# Altium integrated library Lattice FPGA FPSC.IntLib: 28 symbols (part 8 of 9)
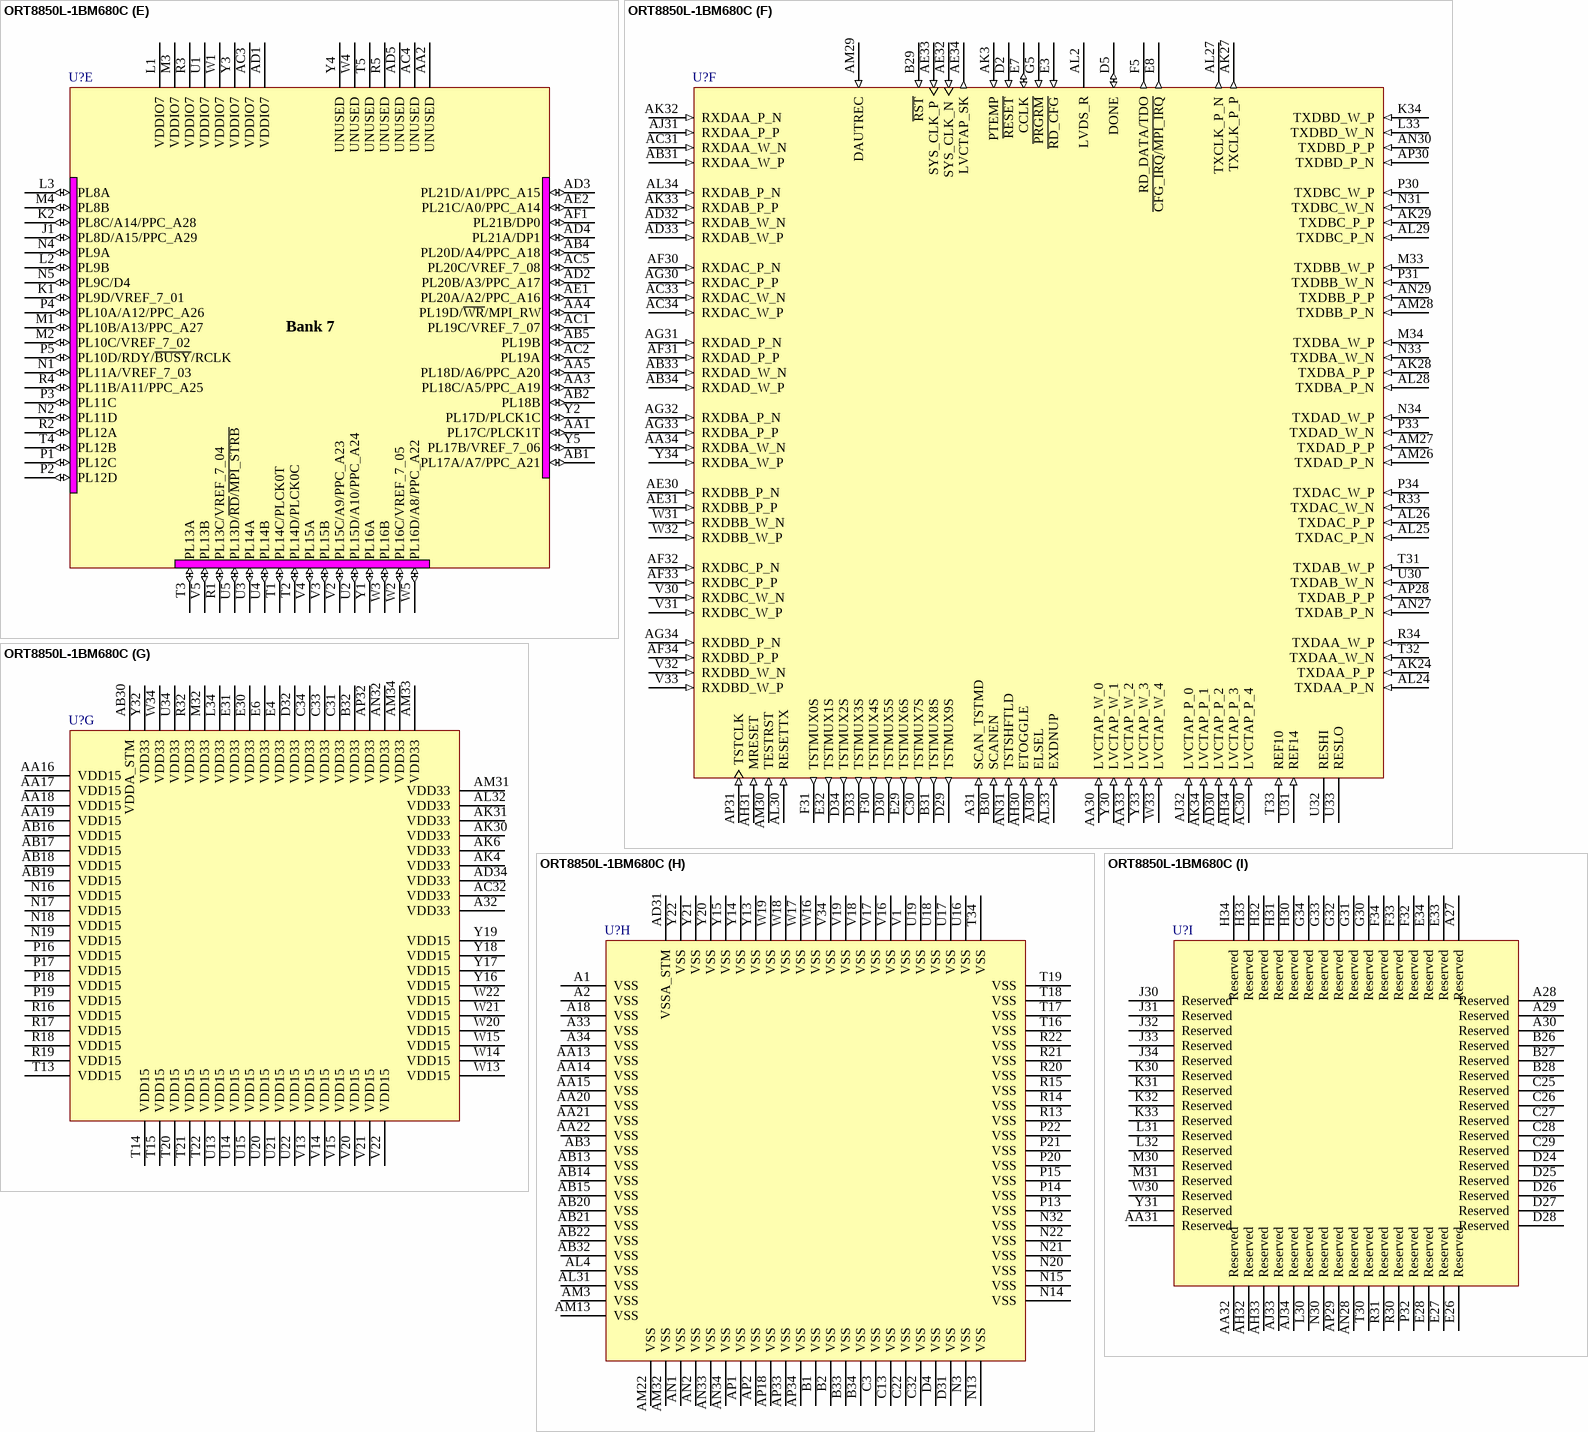
[diagram p59: symbol ORT8850L-1BM680C]

## ORT8850L-1BM680C
designator U?
ORCA ORT8850 Eight Channel x 850 Mbps Backplane Transceiver FPSC: 278 User I/Os, 680-Ball fpBGA, Speed Grade 1, Commercial Grade; Published: 17-Dec-2003; LatestRevisionDate: 13-Apr-2006; LatestRevisionNote: IPC-7351 Footprint Added.; DatasheetVersion: ort8850_04 (Oct-2003); PackageVersion: pkg_32, Aug-2005; PackageReference: fpBGA680; Publisher: Altium Limited; PackageDescription: 680-Ball Fine Pitch Ball Grid Array (fpBGA680); ComponentLink1Description: Manufacturer Link; ComponentLink1URL: http://www.latticesemi.com/products/fpsc/ort8850/index.cfm; ComponentLink2Description: Datasheet; ComponentLink2URL: http://www.latticesemi.com/account/_download.cfm?AMID=3967; ComponentLink3Description: Lattice Login; ComponentLink3URL: http://www.latticesemi.com/account/login.cfm
footprint fpBGA680 (BGA, 680-Leads, Body 35x35mm, Pitch 1mm)
3D model ORT8850L-fpBGA680 (680-Ball Fine Pitch Ball Grid Array (fpBGA680))
part A pins: A3 VDDIO0 (power), A4 PT3D (io), A5 PT4C/TCK (io), A6 PT5B (io), A7 PT6D/A18/MPI_TSZ0 (io), A8 PT7D/D0 (io), A9 PT8C (io), A10 PT9D/M2 (io), A12 PT11A/VREF_0_01 (io), A13 PT11C/~{MPI_ACK} (io), B3 VDDIO0 (power), B4 PT2A (io), B5 PT2D/PLL_CK1C/PPLL (io), B6 PT3B (io), B7 PT5C/D2 (io), B8 PT7A/A19/MPI_TSZ1 (io), B9 PT8A (io), B10 PT8D (io), B11 PT10A/A21/~{MPI_BURST} (io), B12 PT10D/M0 (io), B13 PT11B (io), C1 VDDIO0 (power), C2 VDDIO0 (power), C4 VDDIO0 (power), C5 PT2B (io), C6 PT3A (io), C7 PT4D/TDI (io), C8 PT6A (io), C9 PT7B/A20/~{MPI_BDIP} (io), C10 PT8B/VREF_0_03 (io), C11 PT9A/~{MPI_TEA} (io), D1 PL2C/PLL_CK0T/HPPLL (io), D3 VDDIO0 (power), D6 PT2C/PLL_CK1T/PPLL (io), D7 PT4A (io), D8 PT5A/VREF_0_05 (io), D9 PT6B/VREF_0_04 (io), D10 PT7C/TMS (io), D11 UNUSED, D12 PT9B/VREF_0_02 (io), D13 PT10C/M1 (io), E1 PL3B (io), E2 PL2B (io), E5 VDDIO0 (power), E9 PT3C/VREF_0_06 (io), E10 PT4B (io), E11 PT5D/D1 (io), E12 PT6C/D3 (io), E13 UNUSED, E14 PT9C/M3 (io), E15 PT10B/MPI_CLK (io), E16 PT11D/~{MPI_RTRY} (io), F1 PL4A (io), F2 PL3A/VREF_0_08 (io), F3 PL2A/VREF_0_07 (io), F4 PL2D/PLL_CK0C/HPPLL (io), G1 PL6D/~{CS}0 (io), G2 PL5D/TESTCFG (io), G3 PL4C/~{LDC} (io), G4 PL3D/D5 (io), H1 PL7D/~{INIT} (io), H2 PL6B (io), H3 PL5C/D7 (io), H4 PL4B (io), H5 PL3C/D6 (io), J2 PL7C/DOUT (io), J3 PL6A (io), J4 PL5A/A17/PPC_A31 (io), J5 PL4D/HDC (io), K3 PL7B/VREF_0_10 (io), K4 UNUSED, K5 PL5B/VREF_0_09 (io), L4 PL7A/A16/PPC_A30 (io), L5 PL6C/CS1 (io), M5 UNUSED
part B pins: A11 VDDIO1 (power), A14 PT14C (io), A15 PT15C (io), A16 PT17B (io), A17 VDDIO1 (power), A19 VDDIO1 (power), A20 PT20A (io), A21 PT20D (io), A22 PT22D (io), A23 PT24A (io), A24 VDDIO1 (power), A25 PT26B (io), A26 PT26D (io), B14 PT14A (io), B15 PT15A (io), B16 PT16D/PTCK0C (io), B17 PT17D/PTCK1C (io), B18 PT18B (io), B19 PT19A (io), B20 PT20C (io), B21 PT21C (io), B22 PT23C (io), B23 PT24C/VREF_1_02 (io), B24 PT25B (io), B25 PT26A (io), C12 VDDIO1 (power), C14 PT13C/VREF_1_06 (io), C15 VDDIO1 (power), C16 PT16C/PTCK0T (io), C17 PT17C/PTCK1T (io), C18 PT18A (io), C19 PT19B (io), C20 VDDIO1 (power), C21 PT22C/VREF_1_03 (io), C23 VDDIO1 (power), C24 PT25D/VREF_1_01 (io), D14 PT13A (io), D15 PT14D (io), D16 PT16A (io), D17 PT17A (io), D18 PT18C/VREF_1_04 (io), D19 PT19C (io), D20 PT21D (io), D21 PT23D (io), D22 PT24D (io), D23 PT25C (io), E17 PT13D (io), E18 PT15D/VREF_1_05 (io), E19 PT18D (io), E20 PT19D (io), E21 PT21A (io), E22 PT22A (io), E23 PT24B (io), E24 PT25A (io), E25 PT26C (io)
part C pins: AK17 PB14B (io), AK18 PB17B (io), AK19 PB18B/VREF_5_03 (io), AK20 PB19C (io), AK21 PB20C (io), AK22 PB22C (io), AK23 PB23D/VREF_5_05 (io), AK25 PB26A (io), AK26 PB27B (io), AL17 PB15B (io), AL18 PB16B/PBCK0C (io), AL19 PB17D (io), AL20 PB19B (io), AL21 PB21B (io), AL22 PB22D (io), AL23 PB24C (io), AM12 VDDIO5 (power), AM15 VDDIO5 (power), AM16 PB14C (io), AM17 PB15D (io), AM18 PB16D (io), AM19 PB17C (io), AM20 VDDIO5 (power), AM21 PB20B/PBCK1C (io), AM23 VDDIO5 (power), AM24 PB24D (io), AM25 PB27A (io), AN15 PB13C (io), AN16 PB15A/VREF_5_01 (io), AN17 PB16A/PBCK0T (io), AN18 PB16C (io), AN19 PB17A/VREF_5_02 (io), AN20 PB18C (io), AN21 PB20A/PBCK1T (io), AN22 PB21C (io), AN23 PB22B/VREF_5_04 (io), AN24 PB23C (io), AN25 PB25B (io), AN26 PB26B/VREF_5_06 (io), AP11 VDDIO5 (power), AP15 PB14A (io), AP16 PB15C (io), AP17 VDDIO5 (power), AP19 VDDIO5 (power), AP20 PB18A (io), AP21 PB19A (io), AP22 PB21A (io), AP23 PB22A (io), AP24 VDDIO5 (power), AP25 PB25A (io), AP26 PB25C (io), AP27 PB26C (io)
part D pins: AE3 PL22D/D8 (io), AE4 PL22B/D9 (io), AE5 PL23D (io), AF2 PL22C/VREF_6_01 (io), AF3 PL22A/D10 (io), AF4 PL24D/D11 (io), AF5 PL23A (io), AG1 UNUSED, AG2 PL23C/VREF_6_02 (io), AG3 PL24C/D12 (io), AG4 PL25D/VREF_6_03 (io), AG5 PL25C/D13 (io), AH1 PL23B (io), AH2 PL24B (io), AH3 PL25B (io), AH4 PL26B (io), AH5 PL26C/VREF_6_04 (io), AJ1 PL24A (io), AJ2 PL26D (io), AJ3 PL26A (io), AJ4 PL27A (io), AJ5 PL27B (io), AK1 PL25A (io), AK2 PL27D/PLL_CK7C/HPPLL (io), AK5 VDDIO6 (power), AK7 PB2D/PLL_CK6C/PPLL (io), AK8 PB4A (io), AK9 PB4C/VREF_6_06 (io), AK10 UNUSED, AK11 UNUSED, AK12 PB8A (io), AK13 PB9C/VREF_6_09 (io), AK14 PB10B (io), AK15 PB11D/D28 (io), AK16 PB12B/D30 (io), AL1 PL27C/PLL_CK7T/HPPLL (io), AL3 VDDIO6 (power), AL5 PB2A/DP2 (io), AL6 PB3A (io), AL7 PB3D/DP3 (io), AL8 PB5C/D15 (io), AL9 PB6B/D18 (io), AL10 PB7A/D20 (io), AL11 PB7C/VREF_6_08 (io), AL12 PB8D/D24 (io), AL13 PB10A (io), AL14 PB10D/D27 (io), AL15 PB12A/D29 (io), AL16 PB12D/D31 (io), AM1 VDDIO6 (power), AM2 VDDIO6 (power), AM4 VDDIO6 (power), AM5 PB2C/PLL_CK6T/PPLL (io), AM6 PB3C/VREF_6_05 (io), AM7 PB5A (io), AM8 PB6A/D17 (io), AM9 UNUSED, AM10 PB7D/D22 (io), AM11 PB9A (io), AM14 UNUSED, AN3 VDDIO6 (power), AN4 PB2B (io), AN5 PB3B (io), AN6 PB4D/D14 (io), AN7 PB5D/D16 (io), AN8 PB6D/D19 (io), AN9 UNUSED, AN10 PB8C/D23 (io), AN11 PB9D/D25 (io), AN12 PB10C/D26 (io), AN13 PB11B (io), AN14 UNUSED, AP3 VDDIO6 (power), AP4 UNUSED, AP5 PB4B (io), AP6 PB5B (io), AP7 PB6C/VREF_6_07 (io), AP8 PB7B/D21 (io), AP9 PB8B (io), AP10 PB9B (io), AP12 PB11A (io), AP13 PB11C/VREF_6_10 (io), AP14 PB12C/VREF_6_11 (io)
part E pins: AA1 PL17C/PLCK1T (io), AA2 UNUSED, AA3 PL18C/A5/PPC_A19 (io), AA4 PL19D/~{WR}/MPI_RW (io), AA5 PL18D/A6/PPC_A20 (io), AB1 PL17A/A7/PPC_A21 (io), AB2 PL18B (io), AB4 PL20D/A4/PPC_A18 (io), AB5 PL19B (io), AC1 PL19C/VREF_7_07 (io), AC2 PL19A (io), AC3 VDDIO7 (power), AC4 UNUSED, AC5 PL20C/VREF_7_08 (io), AD1 VDDIO7 (power), AD2 PL20B/A3/PPC_A17 (io), AD3 PL21D/A1/PPC_A15 (io), AD4 PL21A/DP1 (io), AD5 UNUSED, AE1 PL20A/A2/PPC_A16 (io), AE2 PL21C/A0/PPC_A14 (io), AF1 PL21B/DP0 (io), J1 PL8D/A15/PPC_A29 (io), K1 PL9D/VREF_7_01 (io), K2 PL8C/A14/PPC_A28 (io), L1 VDDIO7 (power), L2 PL9B (io), L3 PL8A (io), M1 PL10B/A13/PPC_A27 (io), M2 PL10C/VREF_7_02 (io), M3 VDDIO7 (power), M4 PL8B (io), N1 PL11A/VREF_7_03 (io), N2 PL11D (io), N4 PL9A (io), N5 PL9C/D4 (io), P1 PL12C (io), P2 PL12D (io), P3 PL11C (io), P4 PL10A/A12/PPC_A26 (io), P5 PL10D/RDY/~{BUSY}/RCLK (io), R1 PL13C/VREF_7_04 (io), R2 PL12A (io), R3 VDDIO7 (power), R4 PL11B/A11/PPC_A25 (io), R5 UNUSED, T1 PL14C/PLCK0T (io), T2 PL14D/PLCK0C (io), T3 PL13A (io), T4 PL12B (io), T5 UNUSED, U1 VDDIO7 (power), U2 PL15D/A10/PPC_A24 (io), U3 PL14A (io), U4 PL14B (io), U5 PL13D/~{RD}/~{MPI_STRB} (io), V2 PL15C/A9/PPC_A23 (io), V3 PL15B (io), V4 PL15A (io), V5 PL13B (io), W1 VDDIO7 (power), W2 PL16C/VREF_7_05 (io), W3 PL16B (io), W4 UNUSED, W5 PL16D/A8/PPC_A22 (io), Y1 PL16A (io), Y2 PL17D/PLCK1C (io), Y3 VDDIO7 (power), Y4 UNUSED, Y5 PL17B/VREF_7_06 (io)
part F pins: A31 SCAN_TSTMD (in), AA30 LVCTAP_W_0 (in), AA33 LVCTAP_W_2 (in), AA34 RXDBA_W_N (in), AB31 RXDAA_W_P (in), AB33 RXDAD_W_N (in), AB34 RXDAD_W_P (in), AC30 LVCTAP_P_4 (in), AC31 RXDAA_W_N (in), AC33 RXDAC_W_N (in), AC34 RXDAC_W_P (in), AD30 LVCTAP_P_2 (in), AD32 RXDAB_W_N (in), AD33 RXDAB_W_P (in), AE30 RXDBB_P_N (in), AE31 RXDBB_P_P (in), AE32 SYS_CLK_N (in), AE33 SYS_CLK_P (in), AE34 LVCTAP_SK (out), AF30 RXDAC_P_N (in), AF31 RXDAD_P_P (in), AF32 RXDBC_P_N (in), AF33 RXDBC_P_P (in), AF34 RXDBD_P_P (in), AG30 RXDAC_P_P (in), AG31 RXDAD_P_N (in), AG32 RXDBA_P_N (in), AG33 RXDBA_P_P (in), AG34 RXDBD_P_N (in), AH30 ETOGGLE (in), AH31 MRESET (in), AH34 LVCTAP_P_3 (in), AJ30 ELSEL (in), AJ31 RXDAA_P_P (in), AJ32 LVCTAP_P_0 (in), AK3 PTEMP (in), AK24 TXDAA_P_P (in), AK27 TXCLK_P_P (out), AK28 TXDBA_P_P (in), AK29 TXDBC_P_P (in), AK32 RXDAA_P_N (in), AK33 RXDAB_P_P (in), AK34 LVCTAP_P_1 (in), AL2 LVDS_R, AL24 TXDAA_P_N (in), AL25 TXDAC_P_N (in), AL26 TXDAC_P_P (in), AL27 TXCLK_P_N (out), AL28 TXDBA_P_N (in), AL29 TXDBC_P_N (in), AL30 RESETTX (in), AL33 EXDNUP (in), AL34 RXDAB_P_N (in), AM26 TXDAD_P_N (in), AM27 TXDAD_P_P (in), AM28 TXDBB_P_N (in), AM29 DAUTREC (in), AM30 TESTRST (in), AN27 TXDAB_P_N (in), AN29 TXDBB_P_P (in), AN30 TXDBD_P_P (in), AN31 TSTSHFTLD (in), AP28 TXDAB_P_P (in), AP30 TXDBD_P_N (in), AP31 TSTCLK (in), B29 ~{RST} (in), B30 SCANEN (in), B31 TSTMUX8S (out), C30 TSTMUX7S (out), D2 ~{RESET} (in), D5 DONE (io), D29 TSTMUX9S (out), D30 TSTMUX5S (out), D33 TSTMUX3S (out), D34 TSTMUX2S (out), E3 ~{RD_CFG} (in), E7 CCLK (io), E8 ~{CFG_IRQ}/~{MPI_IRQ} (out), E29 TSTMUX6S (out), E32 TSTMUX1S (out), F5 RD_DATA/TDO (out), F30 TSTMUX4S (out), F31 TSTMUX0S (out), G5 ~{PRGRM} (in), K34 TXDBD_W_P (in), L33 TXDBD_W_N (in), M33 TXDBB_W_P (in), M34 TXDBA_W_P (in), N31 TXDBC_W_N (in), N33 TXDBA_W_N (in), N34 TXDAD_W_P (in), P30 TXDBC_W_P (in), P31 TXDBB_W_N (in), P33 TXDAD_W_N (in), P34 TXDAC_W_P (in), R33 TXDAC_W_N (in), R34 TXDAA_W_P (in), T31 TXDAB_W_P (in), T32 TXDAA_W_N (in), T33 REF10 (in), U30 TXDAB_W_N (in), U31 REF14 (in), U32 RESHI, U33 RESLO, V30 RXDBC_W_N (in), V31 RXDBC_W_P (in), V32 RXDBD_W_N (in), V33 RXDBD_W_P (in), W31 RXDBB_W_N (in), W32 RXDBB_W_P (in), W33 LVCTAP_W_4 (in), Y30 LVCTAP_W_1 (in), Y33 LVCTAP_W_3 (in), Y34 RXDBA_W_P (in)
part G pins: A32 VDD33 (power), AA16 VDD15 (power), AA17 VDD15 (power), AA18 VDD15 (power), AA19 VDD15 (power), AB16 VDD15 (power), AB17 VDD15 (power), AB18 VDD15 (power), AB19 VDD15 (power), AB30 VDDA_STM (power), AC32 VDD33 (power), AD34 VDD33 (power), AK4 VDD33 (power), AK6 VDD33 (power), AK30 VDD33 (power), AK31 VDD33 (power), AL32 VDD33 (power), AM31 VDD33 (power), AM33 VDD33 (power), AM34 VDD33 (power), AN32 VDD33 (power), AP32 VDD33 (power), B32 VDD33 (power), C31 VDD33 (power), C33 VDD33 (power), C34 VDD33 (power), D32 VDD33 (power), E4 VDD33 (power), E6 VDD33 (power), E30 VDD33 (power), E31 VDD33 (power), L34 VDD33 (power), M32 VDD33 (power), N16 VDD15 (power), N17 VDD15 (power), N18 VDD15 (power), N19 VDD15 (power), P16 VDD15 (power), P17 VDD15 (power), P18 VDD15 (power), P19 VDD15 (power), R16 VDD15 (power), R17 VDD15 (power), R18 VDD15 (power), R19 VDD15 (power), R32 VDD33 (power), T13 VDD15 (power), T14 VDD15 (power), T15 VDD15 (power), T20 VDD15 (power), T21 VDD15 (power), T22 VDD15 (power), U13 VDD15 (power), U14 VDD15 (power), U15 VDD15 (power), U20 VDD15 (power), U21 VDD15 (power), U22 VDD15 (power), U34 VDD33 (power), V13 VDD15 (power), V14 VDD15 (power), V15 VDD15 (power), V20 VDD15 (power), V21 VDD15 (power), V22 VDD15 (power), W13 VDD15 (power), W14 VDD15 (power), W15 VDD15 (power), W20 VDD15 (power), W21 VDD15 (power), W22 VDD15 (power), W34 VDD33 (power), Y16 VDD15 (power), Y17 VDD15 (power), Y18 VDD15 (power), Y19 VDD15 (power), Y32 VDD33 (power)
part H pins: A1 VSS (power), A2 VSS (power), A18 VSS (power), A33 VSS (power), A34 VSS (power), AA13 VSS (power), AA14 VSS (power), AA15 VSS (power), AA20 VSS (power), AA21 VSS (power), AA22 VSS (power), AB3 VSS (power), AB13 VSS (power), AB14 VSS (power), AB15 VSS (power), AB20 VSS (power), AB21 VSS (power), AB22 VSS (power), AB32 VSS (power), AD31 VSSA_STM (power), AL4 VSS (power), AL31 VSS (power), AM3 VSS (power), AM13 VSS (power), AM22 VSS (power), AM32 VSS (power), AN1 VSS (power), AN2 VSS (power), AN33 VSS (power), AN34 VSS (power), AP1 VSS (power), AP2 VSS (power), AP18 VSS (power), AP33 VSS (power), AP34 VSS (power), B1 VSS (power), B2 VSS (power), B33 VSS (power), B34 VSS (power), C3 VSS (power), C13 VSS (power), C22 VSS (power), C32 VSS (power), D4 VSS (power), D31 VSS (power), N3 VSS (power), N13 VSS (power), N14 VSS (power), N15 VSS (power), N20 VSS (power), N21 VSS (power), N22 VSS (power), N32 VSS (power), P13 VSS (power), P14 VSS (power), P15 VSS (power), P20 VSS (power), P21 VSS (power), P22 VSS (power), R13 VSS (power), R14 VSS (power), R15 VSS (power), R20 VSS (power), R21 VSS (power), R22 VSS (power), T16 VSS (power), T17 VSS (power), T18 VSS (power), T19 VSS (power), T34 VSS (power), U16 VSS (power), U17 VSS (power), U18 VSS (power), U19 VSS (power), V1 VSS (power), V16 VSS (power), V17 VSS (power), V18 VSS (power), V19 VSS (power), V34 VSS (power), W16 VSS (power), W17 VSS (power), W18 VSS (power), W19 VSS (power), Y13 VSS (power), Y14 VSS (power), Y15 VSS (power), Y20 VSS (power), Y21 VSS (power), Y22 VSS (power)
part I pins: A27 Reserved, A28 Reserved, A29 Reserved, A30 Reserved, AA31 Reserved, AA32 Reserved, AH32 Reserved, AH33 Reserved, AJ33 Reserved, AJ34 Reserved, AN28 Reserved, AP29 Reserved, B26 Reserved, B27 Reserved, B28 Reserved, C25 Reserved, C26 Reserved, C27 Reserved, C28 Reserved, C29 Reserved, D24 Reserved, D25 Reserved, D26 Reserved, D27 Reserved, D28 Reserved, E26 Reserved, E27 Reserved, E28 Reserved, E33 Reserved, E34 Reserved, F32 Reserved, F33 Reserved, F34 Reserved, G30 Reserved, G31 Reserved, G32 Reserved, G33 Reserved, G34 Reserved, H30 Reserved, H31 Reserved, H32 Reserved, H33 Reserved, H34 Reserved, J30 Reserved, J31 Reserved, J32 Reserved, J33 Reserved, J34 Reserved, K30 Reserved, K31 Reserved, K32 Reserved, K33 Reserved, L30 Reserved, L31 Reserved, L32 Reserved, M30 Reserved, M31 Reserved, N30 Reserved, P32 Reserved, R30 Reserved, R31 Reserved, T30 Reserved, W30 Reserved, Y31 Reserved
part A text: Bank 0
part B text: Bank 1
part C text: Bank 5
part D text: Bank 6
part E text: Bank 7

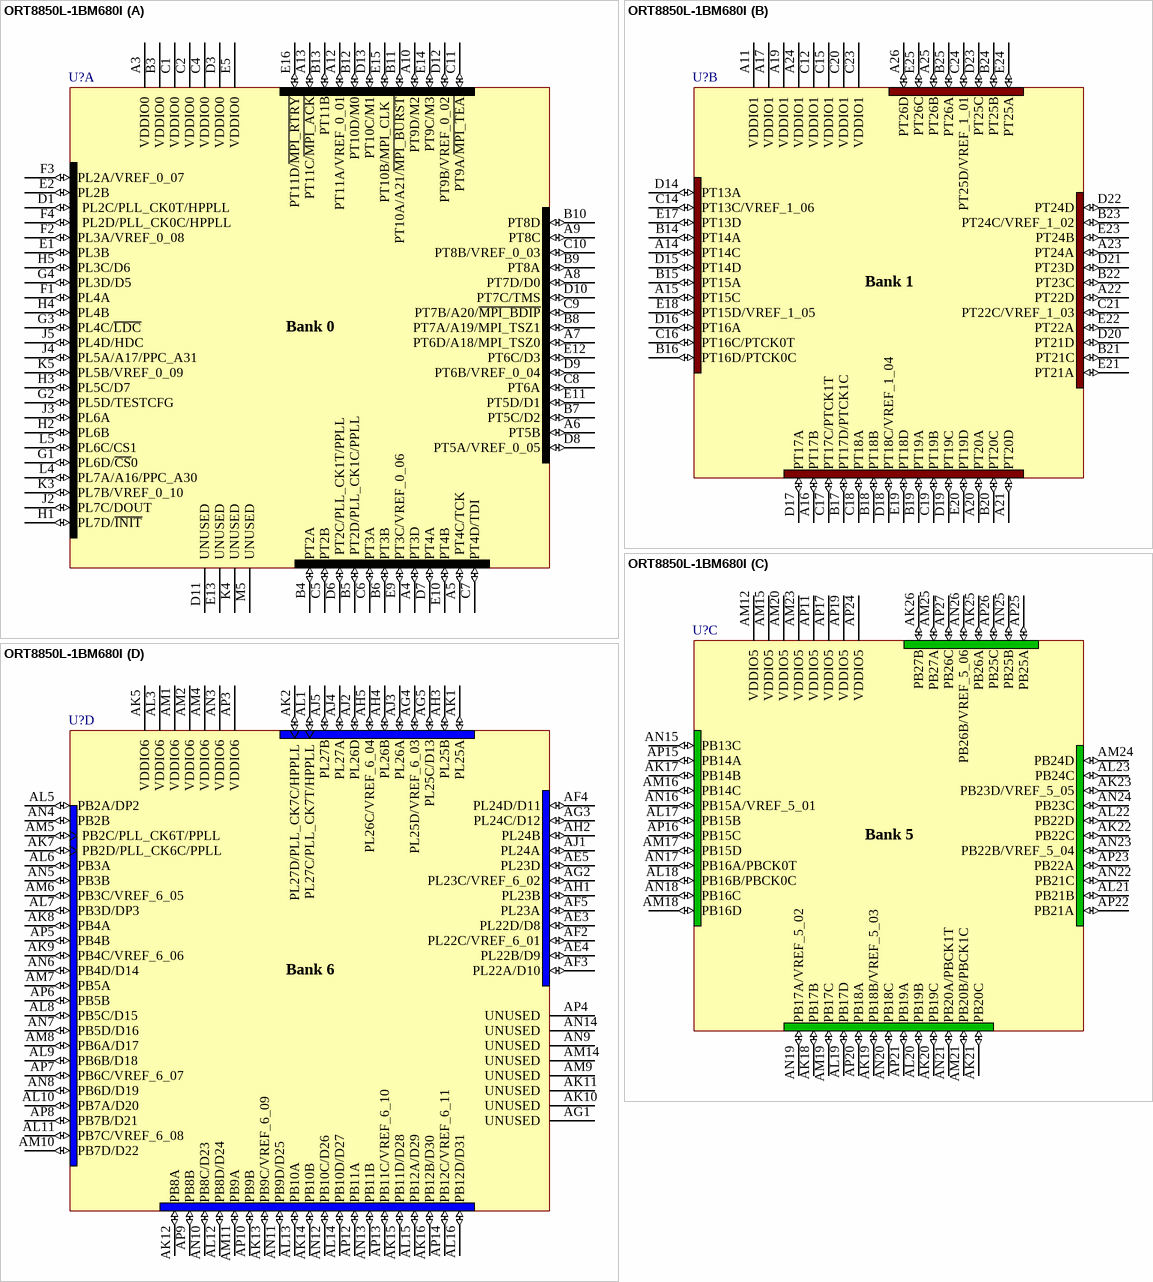
[diagram p45: symbol ORT8850L-1BM680I]

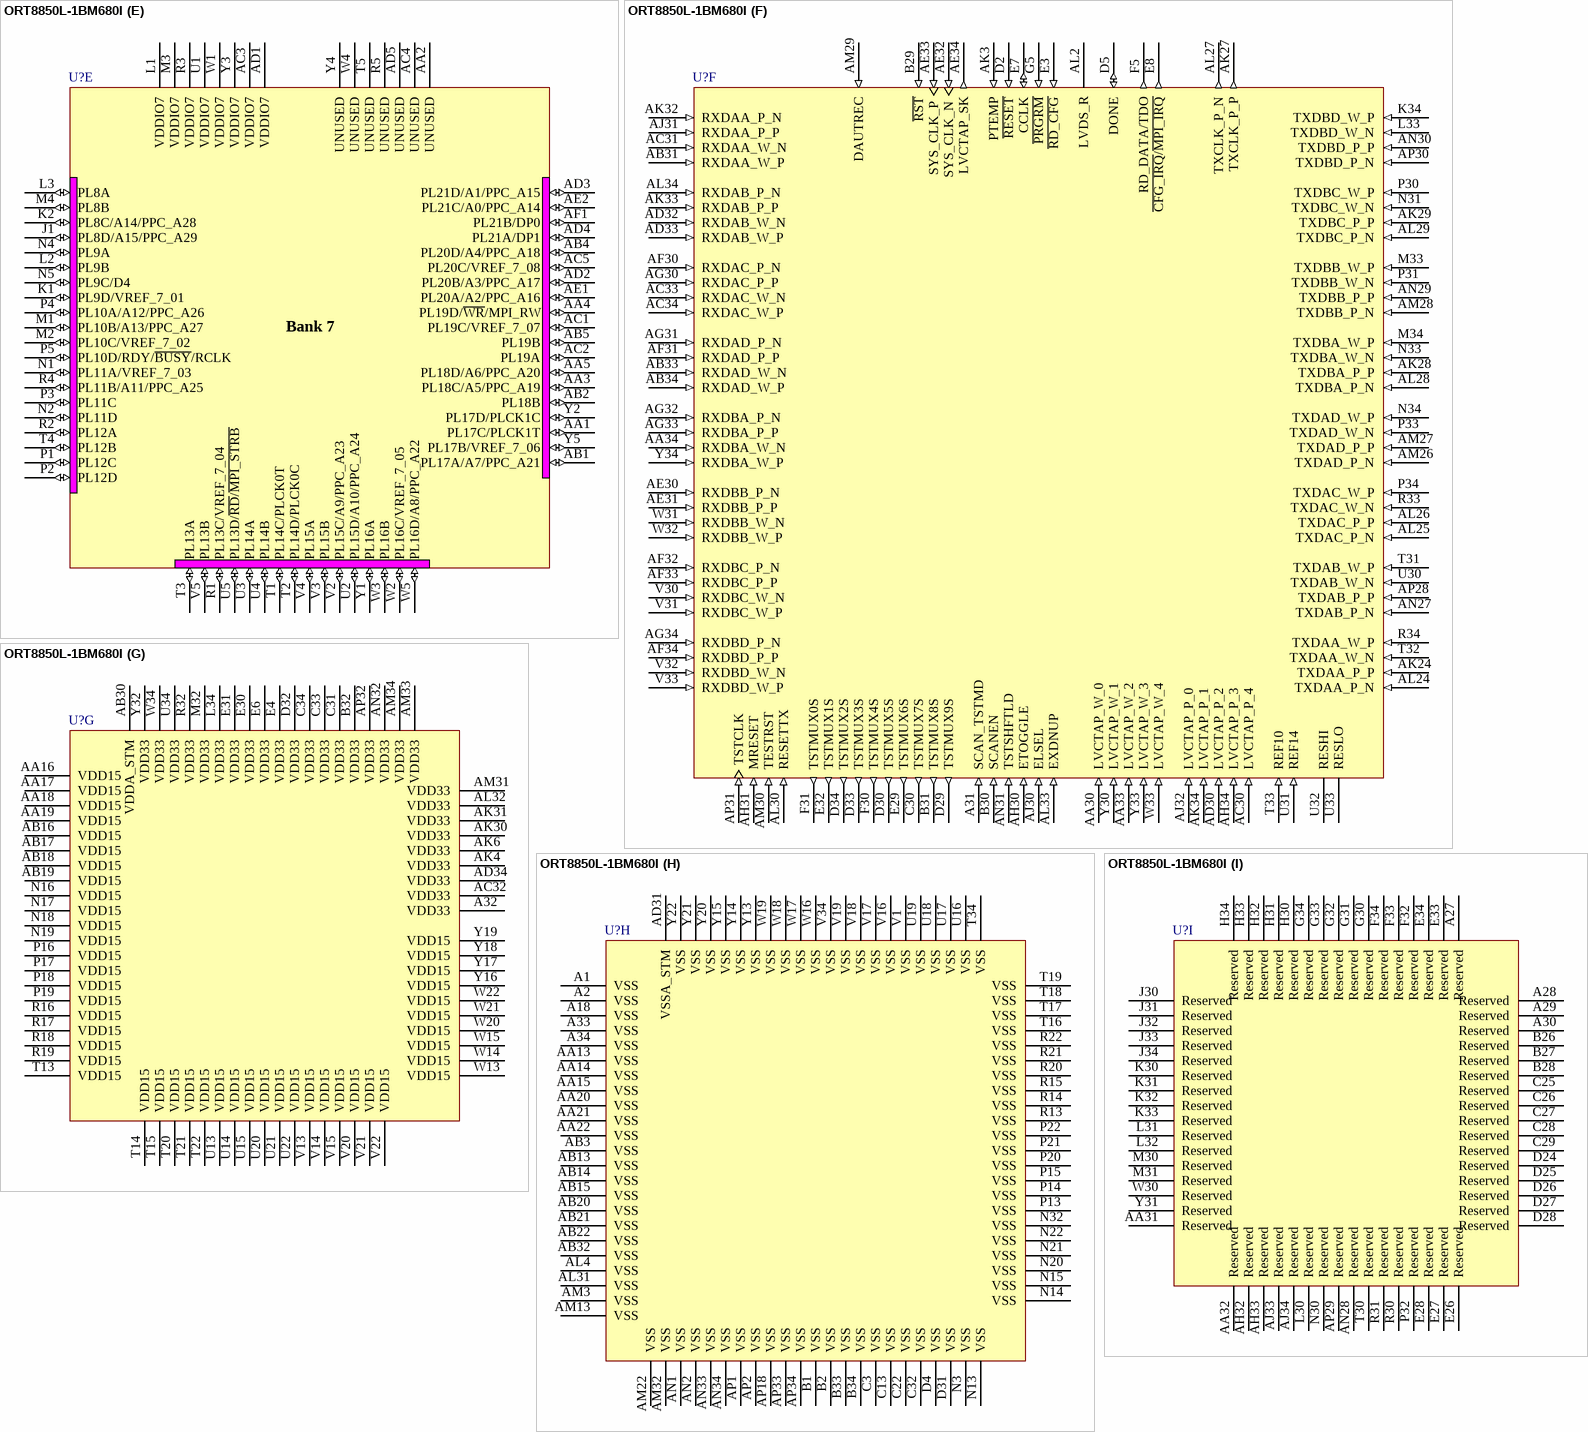
[diagram p46: symbol ORT8850L-1BM680I]

## ORT8850L-1BM680I
designator U?
ORCA ORT8850 Eight Channel x 850 Mbps Backplane Transceiver FPSC: 278 User I/Os, 680-Ball fpBGA, Speed Grade 1, Industrial Grade; Published: 17-Dec-2003; LatestRevisionDate: 13-Apr-2006; LatestRevisionNote: IPC-7351 Footprint Added.; DatasheetVersion: ort8850_04 (Oct-2003); PackageVersion: pkg_32, Aug-2005; PackageReference: fpBGA680; Publisher: Altium Limited; PackageDescription: 680-Ball Fine Pitch Ball Grid Array (fpBGA680); ComponentLink1Description: Manufacturer Link; ComponentLink1URL: http://www.latticesemi.com/products/fpsc/ort8850/index.cfm; ComponentLink2Description: Datasheet; ComponentLink2URL: http://www.latticesemi.com/account/_download.cfm?AMID=3967; ComponentLink3Description: Lattice Login; ComponentLink3URL: http://www.latticesemi.com/account/login.cfm
footprint fpBGA680 (BGA, 680-Leads, Body 35x35mm, Pitch 1mm)
3D model ORT8850L-fpBGA680 (680-Ball Fine Pitch Ball Grid Array (fpBGA680))
part A pins: A3 VDDIO0 (power), A4 PT3D (io), A5 PT4C/TCK (io), A6 PT5B (io), A7 PT6D/A18/MPI_TSZ0 (io), A8 PT7D/D0 (io), A9 PT8C (io), A10 PT9D/M2 (io), A12 PT11A/VREF_0_01 (io), A13 PT11C/~{MPI_ACK} (io), B3 VDDIO0 (power), B4 PT2A (io), B5 PT2D/PLL_CK1C/PPLL (io), B6 PT3B (io), B7 PT5C/D2 (io), B8 PT7A/A19/MPI_TSZ1 (io), B9 PT8A (io), B10 PT8D (io), B11 PT10A/A21/~{MPI_BURST} (io), B12 PT10D/M0 (io), B13 PT11B (io), C1 VDDIO0 (power), C2 VDDIO0 (power), C4 VDDIO0 (power), C5 PT2B (io), C6 PT3A (io), C7 PT4D/TDI (io), C8 PT6A (io), C9 PT7B/A20/~{MPI_BDIP} (io), C10 PT8B/VREF_0_03 (io), C11 PT9A/~{MPI_TEA} (io), D1 PL2C/PLL_CK0T/HPPLL (io), D3 VDDIO0 (power), D6 PT2C/PLL_CK1T/PPLL (io), D7 PT4A (io), D8 PT5A/VREF_0_05 (io), D9 PT6B/VREF_0_04 (io), D10 PT7C/TMS (io), D11 UNUSED, D12 PT9B/VREF_0_02 (io), D13 PT10C/M1 (io), E1 PL3B (io), E2 PL2B (io), E5 VDDIO0 (power), E9 PT3C/VREF_0_06 (io), E10 PT4B (io), E11 PT5D/D1 (io), E12 PT6C/D3 (io), E13 UNUSED, E14 PT9C/M3 (io), E15 PT10B/MPI_CLK (io), E16 PT11D/~{MPI_RTRY} (io), F1 PL4A (io), F2 PL3A/VREF_0_08 (io), F3 PL2A/VREF_0_07 (io), F4 PL2D/PLL_CK0C/HPPLL (io), G1 PL6D/~{CS}0 (io), G2 PL5D/TESTCFG (io), G3 PL4C/~{LDC} (io), G4 PL3D/D5 (io), H1 PL7D/~{INIT} (io), H2 PL6B (io), H3 PL5C/D7 (io), H4 PL4B (io), H5 PL3C/D6 (io), J2 PL7C/DOUT (io), J3 PL6A (io), J4 PL5A/A17/PPC_A31 (io), J5 PL4D/HDC (io), K3 PL7B/VREF_0_10 (io), K4 UNUSED, K5 PL5B/VREF_0_09 (io), L4 PL7A/A16/PPC_A30 (io), L5 PL6C/CS1 (io), M5 UNUSED
part B pins: A11 VDDIO1 (power), A14 PT14C (io), A15 PT15C (io), A16 PT17B (io), A17 VDDIO1 (power), A19 VDDIO1 (power), A20 PT20A (io), A21 PT20D (io), A22 PT22D (io), A23 PT24A (io), A24 VDDIO1 (power), A25 PT26B (io), A26 PT26D (io), B14 PT14A (io), B15 PT15A (io), B16 PT16D/PTCK0C (io), B17 PT17D/PTCK1C (io), B18 PT18B (io), B19 PT19A (io), B20 PT20C (io), B21 PT21C (io), B22 PT23C (io), B23 PT24C/VREF_1_02 (io), B24 PT25B (io), B25 PT26A (io), C12 VDDIO1 (power), C14 PT13C/VREF_1_06 (io), C15 VDDIO1 (power), C16 PT16C/PTCK0T (io), C17 PT17C/PTCK1T (io), C18 PT18A (io), C19 PT19B (io), C20 VDDIO1 (power), C21 PT22C/VREF_1_03 (io), C23 VDDIO1 (power), C24 PT25D/VREF_1_01 (io), D14 PT13A (io), D15 PT14D (io), D16 PT16A (io), D17 PT17A (io), D18 PT18C/VREF_1_04 (io), D19 PT19C (io), D20 PT21D (io), D21 PT23D (io), D22 PT24D (io), D23 PT25C (io), E17 PT13D (io), E18 PT15D/VREF_1_05 (io), E19 PT18D (io), E20 PT19D (io), E21 PT21A (io), E22 PT22A (io), E23 PT24B (io), E24 PT25A (io), E25 PT26C (io)
part C pins: AK17 PB14B (io), AK18 PB17B (io), AK19 PB18B/VREF_5_03 (io), AK20 PB19C (io), AK21 PB20C (io), AK22 PB22C (io), AK23 PB23D/VREF_5_05 (io), AK25 PB26A (io), AK26 PB27B (io), AL17 PB15B (io), AL18 PB16B/PBCK0C (io), AL19 PB17D (io), AL20 PB19B (io), AL21 PB21B (io), AL22 PB22D (io), AL23 PB24C (io), AM12 VDDIO5 (power), AM15 VDDIO5 (power), AM16 PB14C (io), AM17 PB15D (io), AM18 PB16D (io), AM19 PB17C (io), AM20 VDDIO5 (power), AM21 PB20B/PBCK1C (io), AM23 VDDIO5 (power), AM24 PB24D (io), AM25 PB27A (io), AN15 PB13C (io), AN16 PB15A/VREF_5_01 (io), AN17 PB16A/PBCK0T (io), AN18 PB16C (io), AN19 PB17A/VREF_5_02 (io), AN20 PB18C (io), AN21 PB20A/PBCK1T (io), AN22 PB21C (io), AN23 PB22B/VREF_5_04 (io), AN24 PB23C (io), AN25 PB25B (io), AN26 PB26B/VREF_5_06 (io), AP11 VDDIO5 (power), AP15 PB14A (io), AP16 PB15C (io), AP17 VDDIO5 (power), AP19 VDDIO5 (power), AP20 PB18A (io), AP21 PB19A (io), AP22 PB21A (io), AP23 PB22A (io), AP24 VDDIO5 (power), AP25 PB25A (io), AP26 PB25C (io), AP27 PB26C (io)
part D pins: AE3 PL22D/D8 (io), AE4 PL22B/D9 (io), AE5 PL23D (io), AF2 PL22C/VREF_6_01 (io), AF3 PL22A/D10 (io), AF4 PL24D/D11 (io), AF5 PL23A (io), AG1 UNUSED, AG2 PL23C/VREF_6_02 (io), AG3 PL24C/D12 (io), AG4 PL25D/VREF_6_03 (io), AG5 PL25C/D13 (io), AH1 PL23B (io), AH2 PL24B (io), AH3 PL25B (io), AH4 PL26B (io), AH5 PL26C/VREF_6_04 (io), AJ1 PL24A (io), AJ2 PL26D (io), AJ3 PL26A (io), AJ4 PL27A (io), AJ5 PL27B (io), AK1 PL25A (io), AK2 PL27D/PLL_CK7C/HPPLL (io), AK5 VDDIO6 (power), AK7 PB2D/PLL_CK6C/PPLL (io), AK8 PB4A (io), AK9 PB4C/VREF_6_06 (io), AK10 UNUSED, AK11 UNUSED, AK12 PB8A (io), AK13 PB9C/VREF_6_09 (io), AK14 PB10B (io), AK15 PB11D/D28 (io), AK16 PB12B/D30 (io), AL1 PL27C/PLL_CK7T/HPPLL (io), AL3 VDDIO6 (power), AL5 PB2A/DP2 (io), AL6 PB3A (io), AL7 PB3D/DP3 (io), AL8 PB5C/D15 (io), AL9 PB6B/D18 (io), AL10 PB7A/D20 (io), AL11 PB7C/VREF_6_08 (io), AL12 PB8D/D24 (io), AL13 PB10A (io), AL14 PB10D/D27 (io), AL15 PB12A/D29 (io), AL16 PB12D/D31 (io), AM1 VDDIO6 (power), AM2 VDDIO6 (power), AM4 VDDIO6 (power), AM5 PB2C/PLL_CK6T/PPLL (io), AM6 PB3C/VREF_6_05 (io), AM7 PB5A (io), AM8 PB6A/D17 (io), AM9 UNUSED, AM10 PB7D/D22 (io), AM11 PB9A (io), AM14 UNUSED, AN3 VDDIO6 (power), AN4 PB2B (io), AN5 PB3B (io), AN6 PB4D/D14 (io), AN7 PB5D/D16 (io), AN8 PB6D/D19 (io), AN9 UNUSED, AN10 PB8C/D23 (io), AN11 PB9D/D25 (io), AN12 PB10C/D26 (io), AN13 PB11B (io), AN14 UNUSED, AP3 VDDIO6 (power), AP4 UNUSED, AP5 PB4B (io), AP6 PB5B (io), AP7 PB6C/VREF_6_07 (io), AP8 PB7B/D21 (io), AP9 PB8B (io), AP10 PB9B (io), AP12 PB11A (io), AP13 PB11C/VREF_6_10 (io), AP14 PB12C/VREF_6_11 (io)
part E pins: AA1 PL17C/PLCK1T (io), AA2 UNUSED, AA3 PL18C/A5/PPC_A19 (io), AA4 PL19D/~{WR}/MPI_RW (io), AA5 PL18D/A6/PPC_A20 (io), AB1 PL17A/A7/PPC_A21 (io), AB2 PL18B (io), AB4 PL20D/A4/PPC_A18 (io), AB5 PL19B (io), AC1 PL19C/VREF_7_07 (io), AC2 PL19A (io), AC3 VDDIO7 (power), AC4 UNUSED, AC5 PL20C/VREF_7_08 (io), AD1 VDDIO7 (power), AD2 PL20B/A3/PPC_A17 (io), AD3 PL21D/A1/PPC_A15 (io), AD4 PL21A/DP1 (io), AD5 UNUSED, AE1 PL20A/A2/PPC_A16 (io), AE2 PL21C/A0/PPC_A14 (io), AF1 PL21B/DP0 (io), J1 PL8D/A15/PPC_A29 (io), K1 PL9D/VREF_7_01 (io), K2 PL8C/A14/PPC_A28 (io), L1 VDDIO7 (power), L2 PL9B (io), L3 PL8A (io), M1 PL10B/A13/PPC_A27 (io), M2 PL10C/VREF_7_02 (io), M3 VDDIO7 (power), M4 PL8B (io), N1 PL11A/VREF_7_03 (io), N2 PL11D (io), N4 PL9A (io), N5 PL9C/D4 (io), P1 PL12C (io), P2 PL12D (io), P3 PL11C (io), P4 PL10A/A12/PPC_A26 (io), P5 PL10D/RDY/~{BUSY}/RCLK (io), R1 PL13C/VREF_7_04 (io), R2 PL12A (io), R3 VDDIO7 (power), R4 PL11B/A11/PPC_A25 (io), R5 UNUSED, T1 PL14C/PLCK0T (io), T2 PL14D/PLCK0C (io), T3 PL13A (io), T4 PL12B (io), T5 UNUSED, U1 VDDIO7 (power), U2 PL15D/A10/PPC_A24 (io), U3 PL14A (io), U4 PL14B (io), U5 PL13D/~{RD}/~{MPI_STRB} (io), V2 PL15C/A9/PPC_A23 (io), V3 PL15B (io), V4 PL15A (io), V5 PL13B (io), W1 VDDIO7 (power), W2 PL16C/VREF_7_05 (io), W3 PL16B (io), W4 UNUSED, W5 PL16D/A8/PPC_A22 (io), Y1 PL16A (io), Y2 PL17D/PLCK1C (io), Y3 VDDIO7 (power), Y4 UNUSED, Y5 PL17B/VREF_7_06 (io)
part F pins: A31 SCAN_TSTMD (in), AA30 LVCTAP_W_0 (in), AA33 LVCTAP_W_2 (in), AA34 RXDBA_W_N (in), AB31 RXDAA_W_P (in), AB33 RXDAD_W_N (in), AB34 RXDAD_W_P (in), AC30 LVCTAP_P_4 (in), AC31 RXDAA_W_N (in), AC33 RXDAC_W_N (in), AC34 RXDAC_W_P (in), AD30 LVCTAP_P_2 (in), AD32 RXDAB_W_N (in), AD33 RXDAB_W_P (in), AE30 RXDBB_P_N (in), AE31 RXDBB_P_P (in), AE32 SYS_CLK_N (in), AE33 SYS_CLK_P (in), AE34 LVCTAP_SK (out), AF30 RXDAC_P_N (in), AF31 RXDAD_P_P (in), AF32 RXDBC_P_N (in), AF33 RXDBC_P_P (in), AF34 RXDBD_P_P (in), AG30 RXDAC_P_P (in), AG31 RXDAD_P_N (in), AG32 RXDBA_P_N (in), AG33 RXDBA_P_P (in), AG34 RXDBD_P_N (in), AH30 ETOGGLE (in), AH31 MRESET (in), AH34 LVCTAP_P_3 (in), AJ30 ELSEL (in), AJ31 RXDAA_P_P (in), AJ32 LVCTAP_P_0 (in), AK3 PTEMP (in), AK24 TXDAA_P_P (in), AK27 TXCLK_P_P (out), AK28 TXDBA_P_P (in), AK29 TXDBC_P_P (in), AK32 RXDAA_P_N (in), AK33 RXDAB_P_P (in), AK34 LVCTAP_P_1 (in), AL2 LVDS_R, AL24 TXDAA_P_N (in), AL25 TXDAC_P_N (in), AL26 TXDAC_P_P (in), AL27 TXCLK_P_N (out), AL28 TXDBA_P_N (in), AL29 TXDBC_P_N (in), AL30 RESETTX (in), AL33 EXDNUP (in), AL34 RXDAB_P_N (in), AM26 TXDAD_P_N (in), AM27 TXDAD_P_P (in), AM28 TXDBB_P_N (in), AM29 DAUTREC (in), AM30 TESTRST (in), AN27 TXDAB_P_N (in), AN29 TXDBB_P_P (in), AN30 TXDBD_P_P (in), AN31 TSTSHFTLD (in), AP28 TXDAB_P_P (in), AP30 TXDBD_P_N (in), AP31 TSTCLK (in), B29 ~{RST} (in), B30 SCANEN (in), B31 TSTMUX8S (out), C30 TSTMUX7S (out), D2 ~{RESET} (in), D5 DONE (io), D29 TSTMUX9S (out), D30 TSTMUX5S (out), D33 TSTMUX3S (out), D34 TSTMUX2S (out), E3 ~{RD_CFG} (in), E7 CCLK (io), E8 ~{CFG_IRQ}/~{MPI_IRQ} (out), E29 TSTMUX6S (out), E32 TSTMUX1S (out), F5 RD_DATA/TDO (out), F30 TSTMUX4S (out), F31 TSTMUX0S (out), G5 ~{PRGRM} (in), K34 TXDBD_W_P (in), L33 TXDBD_W_N (in), M33 TXDBB_W_P (in), M34 TXDBA_W_P (in), N31 TXDBC_W_N (in), N33 TXDBA_W_N (in), N34 TXDAD_W_P (in), P30 TXDBC_W_P (in), P31 TXDBB_W_N (in), P33 TXDAD_W_N (in), P34 TXDAC_W_P (in), R33 TXDAC_W_N (in), R34 TXDAA_W_P (in), T31 TXDAB_W_P (in), T32 TXDAA_W_N (in), T33 REF10 (in), U30 TXDAB_W_N (in), U31 REF14 (in), U32 RESHI, U33 RESLO, V30 RXDBC_W_N (in), V31 RXDBC_W_P (in), V32 RXDBD_W_N (in), V33 RXDBD_W_P (in), W31 RXDBB_W_N (in), W32 RXDBB_W_P (in), W33 LVCTAP_W_4 (in), Y30 LVCTAP_W_1 (in), Y33 LVCTAP_W_3 (in), Y34 RXDBA_W_P (in)
part G pins: A32 VDD33 (power), AA16 VDD15 (power), AA17 VDD15 (power), AA18 VDD15 (power), AA19 VDD15 (power), AB16 VDD15 (power), AB17 VDD15 (power), AB18 VDD15 (power), AB19 VDD15 (power), AB30 VDDA_STM (power), AC32 VDD33 (power), AD34 VDD33 (power), AK4 VDD33 (power), AK6 VDD33 (power), AK30 VDD33 (power), AK31 VDD33 (power), AL32 VDD33 (power), AM31 VDD33 (power), AM33 VDD33 (power), AM34 VDD33 (power), AN32 VDD33 (power), AP32 VDD33 (power), B32 VDD33 (power), C31 VDD33 (power), C33 VDD33 (power), C34 VDD33 (power), D32 VDD33 (power), E4 VDD33 (power), E6 VDD33 (power), E30 VDD33 (power), E31 VDD33 (power), L34 VDD33 (power), M32 VDD33 (power), N16 VDD15 (power), N17 VDD15 (power), N18 VDD15 (power), N19 VDD15 (power), P16 VDD15 (power), P17 VDD15 (power), P18 VDD15 (power), P19 VDD15 (power), R16 VDD15 (power), R17 VDD15 (power), R18 VDD15 (power), R19 VDD15 (power), R32 VDD33 (power), T13 VDD15 (power), T14 VDD15 (power), T15 VDD15 (power), T20 VDD15 (power), T21 VDD15 (power), T22 VDD15 (power), U13 VDD15 (power), U14 VDD15 (power), U15 VDD15 (power), U20 VDD15 (power), U21 VDD15 (power), U22 VDD15 (power), U34 VDD33 (power), V13 VDD15 (power), V14 VDD15 (power), V15 VDD15 (power), V20 VDD15 (power), V21 VDD15 (power), V22 VDD15 (power), W13 VDD15 (power), W14 VDD15 (power), W15 VDD15 (power), W20 VDD15 (power), W21 VDD15 (power), W22 VDD15 (power), W34 VDD33 (power), Y16 VDD15 (power), Y17 VDD15 (power), Y18 VDD15 (power), Y19 VDD15 (power), Y32 VDD33 (power)
part H pins: A1 VSS (power), A2 VSS (power), A18 VSS (power), A33 VSS (power), A34 VSS (power), AA13 VSS (power), AA14 VSS (power), AA15 VSS (power), AA20 VSS (power), AA21 VSS (power), AA22 VSS (power), AB3 VSS (power), AB13 VSS (power), AB14 VSS (power), AB15 VSS (power), AB20 VSS (power), AB21 VSS (power), AB22 VSS (power), AB32 VSS (power), AD31 VSSA_STM (power), AL4 VSS (power), AL31 VSS (power), AM3 VSS (power), AM13 VSS (power), AM22 VSS (power), AM32 VSS (power), AN1 VSS (power), AN2 VSS (power), AN33 VSS (power), AN34 VSS (power), AP1 VSS (power), AP2 VSS (power), AP18 VSS (power), AP33 VSS (power), AP34 VSS (power), B1 VSS (power), B2 VSS (power), B33 VSS (power), B34 VSS (power), C3 VSS (power), C13 VSS (power), C22 VSS (power), C32 VSS (power), D4 VSS (power), D31 VSS (power), N3 VSS (power), N13 VSS (power), N14 VSS (power), N15 VSS (power), N20 VSS (power), N21 VSS (power), N22 VSS (power), N32 VSS (power), P13 VSS (power), P14 VSS (power), P15 VSS (power), P20 VSS (power), P21 VSS (power), P22 VSS (power), R13 VSS (power), R14 VSS (power), R15 VSS (power), R20 VSS (power), R21 VSS (power), R22 VSS (power), T16 VSS (power), T17 VSS (power), T18 VSS (power), T19 VSS (power), T34 VSS (power), U16 VSS (power), U17 VSS (power), U18 VSS (power), U19 VSS (power), V1 VSS (power), V16 VSS (power), V17 VSS (power), V18 VSS (power), V19 VSS (power), V34 VSS (power), W16 VSS (power), W17 VSS (power), W18 VSS (power), W19 VSS (power), Y13 VSS (power), Y14 VSS (power), Y15 VSS (power), Y20 VSS (power), Y21 VSS (power), Y22 VSS (power)
part I pins: A27 Reserved, A28 Reserved, A29 Reserved, A30 Reserved, AA31 Reserved, AA32 Reserved, AH32 Reserved, AH33 Reserved, AJ33 Reserved, AJ34 Reserved, AN28 Reserved, AP29 Reserved, B26 Reserved, B27 Reserved, B28 Reserved, C25 Reserved, C26 Reserved, C27 Reserved, C28 Reserved, C29 Reserved, D24 Reserved, D25 Reserved, D26 Reserved, D27 Reserved, D28 Reserved, E26 Reserved, E27 Reserved, E28 Reserved, E33 Reserved, E34 Reserved, F32 Reserved, F33 Reserved, F34 Reserved, G30 Reserved, G31 Reserved, G32 Reserved, G33 Reserved, G34 Reserved, H30 Reserved, H31 Reserved, H32 Reserved, H33 Reserved, H34 Reserved, J30 Reserved, J31 Reserved, J32 Reserved, J33 Reserved, J34 Reserved, K30 Reserved, K31 Reserved, K32 Reserved, K33 Reserved, L30 Reserved, L31 Reserved, L32 Reserved, M30 Reserved, M31 Reserved, N30 Reserved, P32 Reserved, R30 Reserved, R31 Reserved, T30 Reserved, W30 Reserved, Y31 Reserved
part A text: Bank 0
part B text: Bank 1
part C text: Bank 5
part D text: Bank 6
part E text: Bank 7

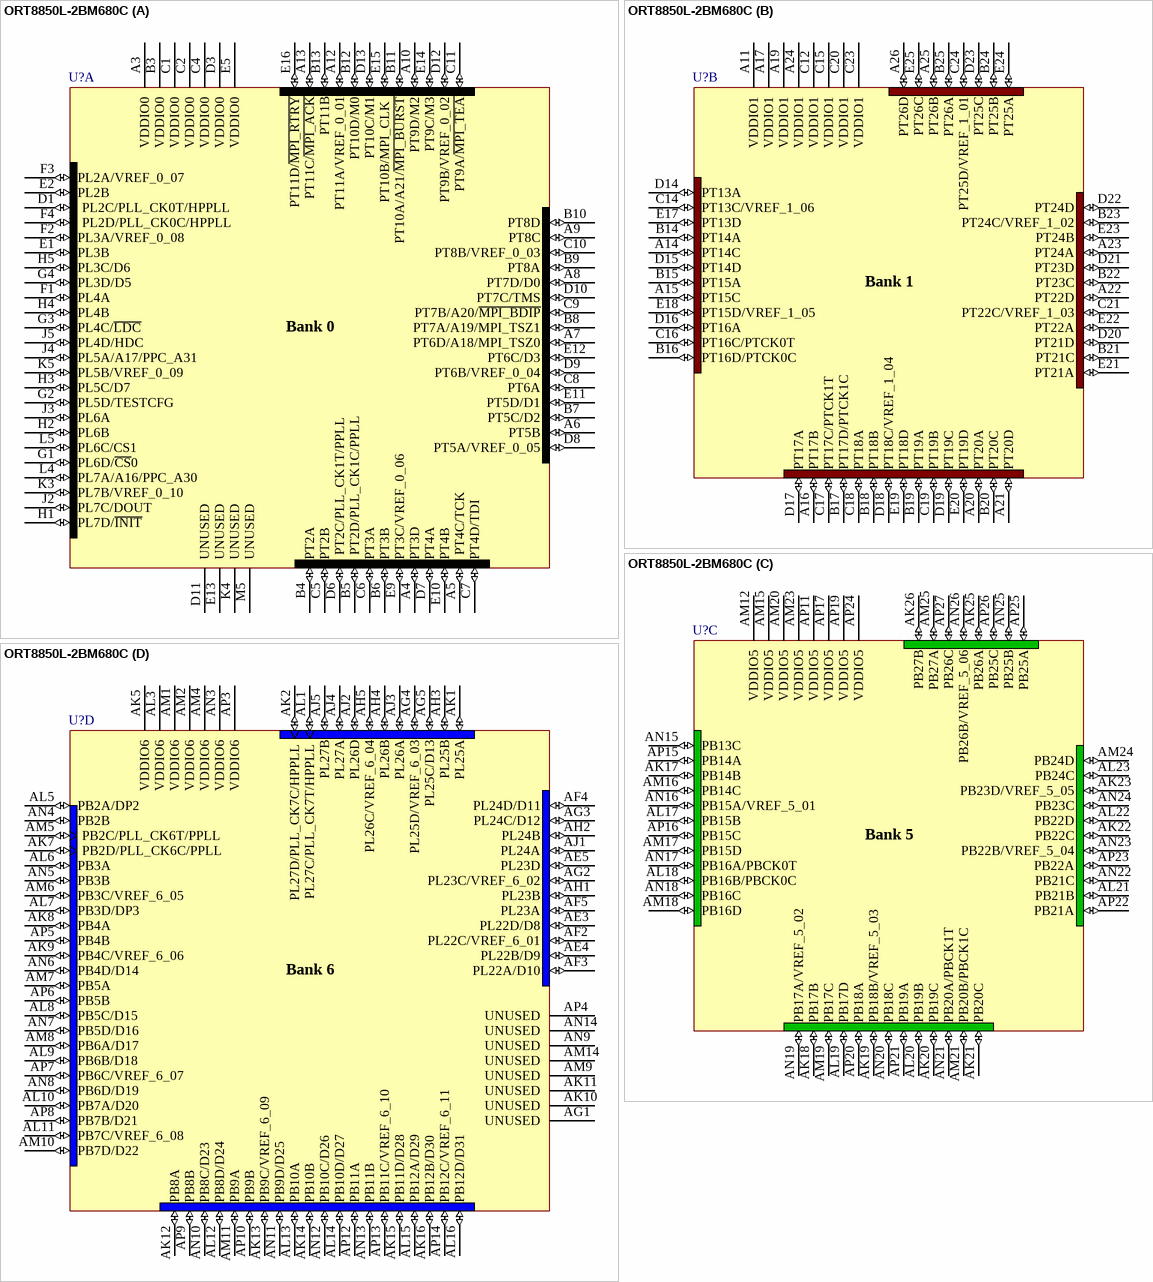
[diagram p47: symbol ORT8850L-2BM680C]

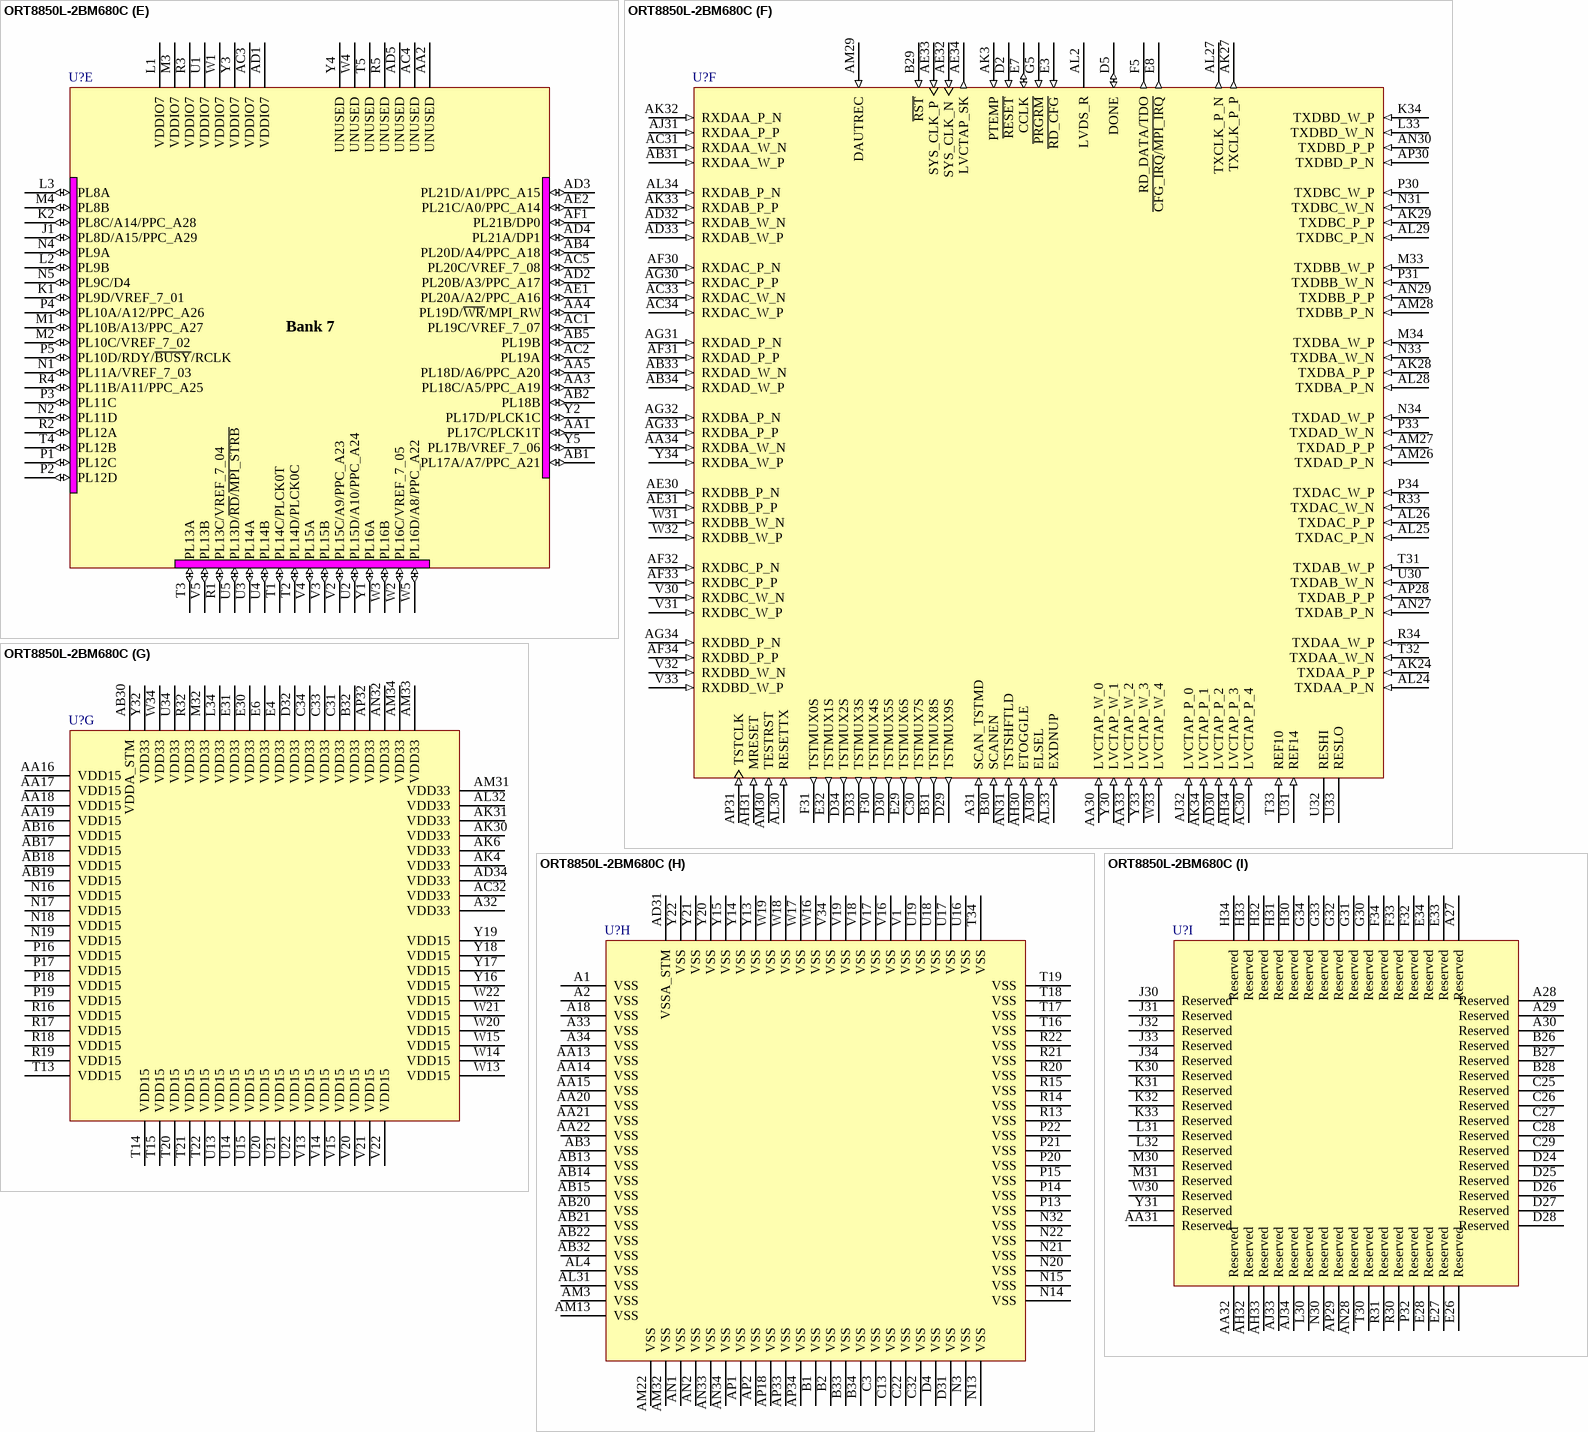
[diagram p48: symbol ORT8850L-2BM680C]

## ORT8850L-2BM680C
designator U?
ORCA ORT8850 Eight Channel x 850 Mbps Backplane Transceiver FPSC: 278 User I/Os, 680-Ball fpBGA, Speed Grade 2, Commercial Grade; Published: 17-Dec-2003; LatestRevisionDate: 13-Apr-2006; LatestRevisionNote: IPC-7351 Footprint Added.; DatasheetVersion: ort8850_04 (Oct-2003); PackageVersion: pkg_32, Aug-2005; PackageReference: fpBGA680; Publisher: Altium Limited; PackageDescription: 680-Ball Fine Pitch Ball Grid Array (fpBGA680); ComponentLink1Description: Manufacturer Link; ComponentLink1URL: http://www.latticesemi.com/products/fpsc/ort8850/index.cfm; ComponentLink2Description: Datasheet; ComponentLink2URL: http://www.latticesemi.com/account/_download.cfm?AMID=3967; ComponentLink3Description: Lattice Login; ComponentLink3URL: http://www.latticesemi.com/account/login.cfm
footprint fpBGA680 (BGA, 680-Leads, Body 35x35mm, Pitch 1mm)
3D model ORT8850L-fpBGA680 (680-Ball Fine Pitch Ball Grid Array (fpBGA680))
part A pins: A3 VDDIO0 (power), A4 PT3D (io), A5 PT4C/TCK (io), A6 PT5B (io), A7 PT6D/A18/MPI_TSZ0 (io), A8 PT7D/D0 (io), A9 PT8C (io), A10 PT9D/M2 (io), A12 PT11A/VREF_0_01 (io), A13 PT11C/~{MPI_ACK} (io), B3 VDDIO0 (power), B4 PT2A (io), B5 PT2D/PLL_CK1C/PPLL (io), B6 PT3B (io), B7 PT5C/D2 (io), B8 PT7A/A19/MPI_TSZ1 (io), B9 PT8A (io), B10 PT8D (io), B11 PT10A/A21/~{MPI_BURST} (io), B12 PT10D/M0 (io), B13 PT11B (io), C1 VDDIO0 (power), C2 VDDIO0 (power), C4 VDDIO0 (power), C5 PT2B (io), C6 PT3A (io), C7 PT4D/TDI (io), C8 PT6A (io), C9 PT7B/A20/~{MPI_BDIP} (io), C10 PT8B/VREF_0_03 (io), C11 PT9A/~{MPI_TEA} (io), D1 PL2C/PLL_CK0T/HPPLL (io), D3 VDDIO0 (power), D6 PT2C/PLL_CK1T/PPLL (io), D7 PT4A (io), D8 PT5A/VREF_0_05 (io), D9 PT6B/VREF_0_04 (io), D10 PT7C/TMS (io), D11 UNUSED, D12 PT9B/VREF_0_02 (io), D13 PT10C/M1 (io), E1 PL3B (io), E2 PL2B (io), E5 VDDIO0 (power), E9 PT3C/VREF_0_06 (io), E10 PT4B (io), E11 PT5D/D1 (io), E12 PT6C/D3 (io), E13 UNUSED, E14 PT9C/M3 (io), E15 PT10B/MPI_CLK (io), E16 PT11D/~{MPI_RTRY} (io), F1 PL4A (io), F2 PL3A/VREF_0_08 (io), F3 PL2A/VREF_0_07 (io), F4 PL2D/PLL_CK0C/HPPLL (io), G1 PL6D/~{CS}0 (io), G2 PL5D/TESTCFG (io), G3 PL4C/~{LDC} (io), G4 PL3D/D5 (io), H1 PL7D/~{INIT} (io), H2 PL6B (io), H3 PL5C/D7 (io), H4 PL4B (io), H5 PL3C/D6 (io), J2 PL7C/DOUT (io), J3 PL6A (io), J4 PL5A/A17/PPC_A31 (io), J5 PL4D/HDC (io), K3 PL7B/VREF_0_10 (io), K4 UNUSED, K5 PL5B/VREF_0_09 (io), L4 PL7A/A16/PPC_A30 (io), L5 PL6C/CS1 (io), M5 UNUSED
part B pins: A11 VDDIO1 (power), A14 PT14C (io), A15 PT15C (io), A16 PT17B (io), A17 VDDIO1 (power), A19 VDDIO1 (power), A20 PT20A (io), A21 PT20D (io), A22 PT22D (io), A23 PT24A (io), A24 VDDIO1 (power), A25 PT26B (io), A26 PT26D (io), B14 PT14A (io), B15 PT15A (io), B16 PT16D/PTCK0C (io), B17 PT17D/PTCK1C (io), B18 PT18B (io), B19 PT19A (io), B20 PT20C (io), B21 PT21C (io), B22 PT23C (io), B23 PT24C/VREF_1_02 (io), B24 PT25B (io), B25 PT26A (io), C12 VDDIO1 (power), C14 PT13C/VREF_1_06 (io), C15 VDDIO1 (power), C16 PT16C/PTCK0T (io), C17 PT17C/PTCK1T (io), C18 PT18A (io), C19 PT19B (io), C20 VDDIO1 (power), C21 PT22C/VREF_1_03 (io), C23 VDDIO1 (power), C24 PT25D/VREF_1_01 (io), D14 PT13A (io), D15 PT14D (io), D16 PT16A (io), D17 PT17A (io), D18 PT18C/VREF_1_04 (io), D19 PT19C (io), D20 PT21D (io), D21 PT23D (io), D22 PT24D (io), D23 PT25C (io), E17 PT13D (io), E18 PT15D/VREF_1_05 (io), E19 PT18D (io), E20 PT19D (io), E21 PT21A (io), E22 PT22A (io), E23 PT24B (io), E24 PT25A (io), E25 PT26C (io)
part C pins: AK17 PB14B (io), AK18 PB17B (io), AK19 PB18B/VREF_5_03 (io), AK20 PB19C (io), AK21 PB20C (io), AK22 PB22C (io), AK23 PB23D/VREF_5_05 (io), AK25 PB26A (io), AK26 PB27B (io), AL17 PB15B (io), AL18 PB16B/PBCK0C (io), AL19 PB17D (io), AL20 PB19B (io), AL21 PB21B (io), AL22 PB22D (io), AL23 PB24C (io), AM12 VDDIO5 (power), AM15 VDDIO5 (power), AM16 PB14C (io), AM17 PB15D (io), AM18 PB16D (io), AM19 PB17C (io), AM20 VDDIO5 (power), AM21 PB20B/PBCK1C (io), AM23 VDDIO5 (power), AM24 PB24D (io), AM25 PB27A (io), AN15 PB13C (io), AN16 PB15A/VREF_5_01 (io), AN17 PB16A/PBCK0T (io), AN18 PB16C (io), AN19 PB17A/VREF_5_02 (io), AN20 PB18C (io), AN21 PB20A/PBCK1T (io), AN22 PB21C (io), AN23 PB22B/VREF_5_04 (io), AN24 PB23C (io), AN25 PB25B (io), AN26 PB26B/VREF_5_06 (io), AP11 VDDIO5 (power), AP15 PB14A (io), AP16 PB15C (io), AP17 VDDIO5 (power), AP19 VDDIO5 (power), AP20 PB18A (io), AP21 PB19A (io), AP22 PB21A (io), AP23 PB22A (io), AP24 VDDIO5 (power), AP25 PB25A (io), AP26 PB25C (io), AP27 PB26C (io)
part D pins: AE3 PL22D/D8 (io), AE4 PL22B/D9 (io), AE5 PL23D (io), AF2 PL22C/VREF_6_01 (io), AF3 PL22A/D10 (io), AF4 PL24D/D11 (io), AF5 PL23A (io), AG1 UNUSED, AG2 PL23C/VREF_6_02 (io), AG3 PL24C/D12 (io), AG4 PL25D/VREF_6_03 (io), AG5 PL25C/D13 (io), AH1 PL23B (io), AH2 PL24B (io), AH3 PL25B (io), AH4 PL26B (io), AH5 PL26C/VREF_6_04 (io), AJ1 PL24A (io), AJ2 PL26D (io), AJ3 PL26A (io), AJ4 PL27A (io), AJ5 PL27B (io), AK1 PL25A (io), AK2 PL27D/PLL_CK7C/HPPLL (io), AK5 VDDIO6 (power), AK7 PB2D/PLL_CK6C/PPLL (io), AK8 PB4A (io), AK9 PB4C/VREF_6_06 (io), AK10 UNUSED, AK11 UNUSED, AK12 PB8A (io), AK13 PB9C/VREF_6_09 (io), AK14 PB10B (io), AK15 PB11D/D28 (io), AK16 PB12B/D30 (io), AL1 PL27C/PLL_CK7T/HPPLL (io), AL3 VDDIO6 (power), AL5 PB2A/DP2 (io), AL6 PB3A (io), AL7 PB3D/DP3 (io), AL8 PB5C/D15 (io), AL9 PB6B/D18 (io), AL10 PB7A/D20 (io), AL11 PB7C/VREF_6_08 (io), AL12 PB8D/D24 (io), AL13 PB10A (io), AL14 PB10D/D27 (io), AL15 PB12A/D29 (io), AL16 PB12D/D31 (io), AM1 VDDIO6 (power), AM2 VDDIO6 (power), AM4 VDDIO6 (power), AM5 PB2C/PLL_CK6T/PPLL (io), AM6 PB3C/VREF_6_05 (io), AM7 PB5A (io), AM8 PB6A/D17 (io), AM9 UNUSED, AM10 PB7D/D22 (io), AM11 PB9A (io), AM14 UNUSED, AN3 VDDIO6 (power), AN4 PB2B (io), AN5 PB3B (io), AN6 PB4D/D14 (io), AN7 PB5D/D16 (io), AN8 PB6D/D19 (io), AN9 UNUSED, AN10 PB8C/D23 (io), AN11 PB9D/D25 (io), AN12 PB10C/D26 (io), AN13 PB11B (io), AN14 UNUSED, AP3 VDDIO6 (power), AP4 UNUSED, AP5 PB4B (io), AP6 PB5B (io), AP7 PB6C/VREF_6_07 (io), AP8 PB7B/D21 (io), AP9 PB8B (io), AP10 PB9B (io), AP12 PB11A (io), AP13 PB11C/VREF_6_10 (io), AP14 PB12C/VREF_6_11 (io)
part E pins: AA1 PL17C/PLCK1T (io), AA2 UNUSED, AA3 PL18C/A5/PPC_A19 (io), AA4 PL19D/~{WR}/MPI_RW (io), AA5 PL18D/A6/PPC_A20 (io), AB1 PL17A/A7/PPC_A21 (io), AB2 PL18B (io), AB4 PL20D/A4/PPC_A18 (io), AB5 PL19B (io), AC1 PL19C/VREF_7_07 (io), AC2 PL19A (io), AC3 VDDIO7 (power), AC4 UNUSED, AC5 PL20C/VREF_7_08 (io), AD1 VDDIO7 (power), AD2 PL20B/A3/PPC_A17 (io), AD3 PL21D/A1/PPC_A15 (io), AD4 PL21A/DP1 (io), AD5 UNUSED, AE1 PL20A/A2/PPC_A16 (io), AE2 PL21C/A0/PPC_A14 (io), AF1 PL21B/DP0 (io), J1 PL8D/A15/PPC_A29 (io), K1 PL9D/VREF_7_01 (io), K2 PL8C/A14/PPC_A28 (io), L1 VDDIO7 (power), L2 PL9B (io), L3 PL8A (io), M1 PL10B/A13/PPC_A27 (io), M2 PL10C/VREF_7_02 (io), M3 VDDIO7 (power), M4 PL8B (io), N1 PL11A/VREF_7_03 (io), N2 PL11D (io), N4 PL9A (io), N5 PL9C/D4 (io), P1 PL12C (io), P2 PL12D (io), P3 PL11C (io), P4 PL10A/A12/PPC_A26 (io), P5 PL10D/RDY/~{BUSY}/RCLK (io), R1 PL13C/VREF_7_04 (io), R2 PL12A (io), R3 VDDIO7 (power), R4 PL11B/A11/PPC_A25 (io), R5 UNUSED, T1 PL14C/PLCK0T (io), T2 PL14D/PLCK0C (io), T3 PL13A (io), T4 PL12B (io), T5 UNUSED, U1 VDDIO7 (power), U2 PL15D/A10/PPC_A24 (io), U3 PL14A (io), U4 PL14B (io), U5 PL13D/~{RD}/~{MPI_STRB} (io), V2 PL15C/A9/PPC_A23 (io), V3 PL15B (io), V4 PL15A (io), V5 PL13B (io), W1 VDDIO7 (power), W2 PL16C/VREF_7_05 (io), W3 PL16B (io), W4 UNUSED, W5 PL16D/A8/PPC_A22 (io), Y1 PL16A (io), Y2 PL17D/PLCK1C (io), Y3 VDDIO7 (power), Y4 UNUSED, Y5 PL17B/VREF_7_06 (io)
part F pins: A31 SCAN_TSTMD (in), AA30 LVCTAP_W_0 (in), AA33 LVCTAP_W_2 (in), AA34 RXDBA_W_N (in), AB31 RXDAA_W_P (in), AB33 RXDAD_W_N (in), AB34 RXDAD_W_P (in), AC30 LVCTAP_P_4 (in), AC31 RXDAA_W_N (in), AC33 RXDAC_W_N (in), AC34 RXDAC_W_P (in), AD30 LVCTAP_P_2 (in), AD32 RXDAB_W_N (in), AD33 RXDAB_W_P (in), AE30 RXDBB_P_N (in), AE31 RXDBB_P_P (in), AE32 SYS_CLK_N (in), AE33 SYS_CLK_P (in), AE34 LVCTAP_SK (out), AF30 RXDAC_P_N (in), AF31 RXDAD_P_P (in), AF32 RXDBC_P_N (in), AF33 RXDBC_P_P (in), AF34 RXDBD_P_P (in), AG30 RXDAC_P_P (in), AG31 RXDAD_P_N (in), AG32 RXDBA_P_N (in), AG33 RXDBA_P_P (in), AG34 RXDBD_P_N (in), AH30 ETOGGLE (in), AH31 MRESET (in), AH34 LVCTAP_P_3 (in), AJ30 ELSEL (in), AJ31 RXDAA_P_P (in), AJ32 LVCTAP_P_0 (in), AK3 PTEMP (in), AK24 TXDAA_P_P (in), AK27 TXCLK_P_P (out), AK28 TXDBA_P_P (in), AK29 TXDBC_P_P (in), AK32 RXDAA_P_N (in), AK33 RXDAB_P_P (in), AK34 LVCTAP_P_1 (in), AL2 LVDS_R, AL24 TXDAA_P_N (in), AL25 TXDAC_P_N (in), AL26 TXDAC_P_P (in), AL27 TXCLK_P_N (out), AL28 TXDBA_P_N (in), AL29 TXDBC_P_N (in), AL30 RESETTX (in), AL33 EXDNUP (in), AL34 RXDAB_P_N (in), AM26 TXDAD_P_N (in), AM27 TXDAD_P_P (in), AM28 TXDBB_P_N (in), AM29 DAUTREC (in), AM30 TESTRST (in), AN27 TXDAB_P_N (in), AN29 TXDBB_P_P (in), AN30 TXDBD_P_P (in), AN31 TSTSHFTLD (in), AP28 TXDAB_P_P (in), AP30 TXDBD_P_N (in), AP31 TSTCLK (in), B29 ~{RST} (in), B30 SCANEN (in), B31 TSTMUX8S (out), C30 TSTMUX7S (out), D2 ~{RESET} (in), D5 DONE (io), D29 TSTMUX9S (out), D30 TSTMUX5S (out), D33 TSTMUX3S (out), D34 TSTMUX2S (out), E3 ~{RD_CFG} (in), E7 CCLK (io), E8 ~{CFG_IRQ}/~{MPI_IRQ} (out), E29 TSTMUX6S (out), E32 TSTMUX1S (out), F5 RD_DATA/TDO (out), F30 TSTMUX4S (out), F31 TSTMUX0S (out), G5 ~{PRGRM} (in), K34 TXDBD_W_P (in), L33 TXDBD_W_N (in), M33 TXDBB_W_P (in), M34 TXDBA_W_P (in), N31 TXDBC_W_N (in), N33 TXDBA_W_N (in), N34 TXDAD_W_P (in), P30 TXDBC_W_P (in), P31 TXDBB_W_N (in), P33 TXDAD_W_N (in), P34 TXDAC_W_P (in), R33 TXDAC_W_N (in), R34 TXDAA_W_P (in), T31 TXDAB_W_P (in), T32 TXDAA_W_N (in), T33 REF10 (in), U30 TXDAB_W_N (in), U31 REF14 (in), U32 RESHI, U33 RESLO, V30 RXDBC_W_N (in), V31 RXDBC_W_P (in), V32 RXDBD_W_N (in), V33 RXDBD_W_P (in), W31 RXDBB_W_N (in), W32 RXDBB_W_P (in), W33 LVCTAP_W_4 (in), Y30 LVCTAP_W_1 (in), Y33 LVCTAP_W_3 (in), Y34 RXDBA_W_P (in)
part G pins: A32 VDD33 (power), AA16 VDD15 (power), AA17 VDD15 (power), AA18 VDD15 (power), AA19 VDD15 (power), AB16 VDD15 (power), AB17 VDD15 (power), AB18 VDD15 (power), AB19 VDD15 (power), AB30 VDDA_STM (power), AC32 VDD33 (power), AD34 VDD33 (power), AK4 VDD33 (power), AK6 VDD33 (power), AK30 VDD33 (power), AK31 VDD33 (power), AL32 VDD33 (power), AM31 VDD33 (power), AM33 VDD33 (power), AM34 VDD33 (power), AN32 VDD33 (power), AP32 VDD33 (power), B32 VDD33 (power), C31 VDD33 (power), C33 VDD33 (power), C34 VDD33 (power), D32 VDD33 (power), E4 VDD33 (power), E6 VDD33 (power), E30 VDD33 (power), E31 VDD33 (power), L34 VDD33 (power), M32 VDD33 (power), N16 VDD15 (power), N17 VDD15 (power), N18 VDD15 (power), N19 VDD15 (power), P16 VDD15 (power), P17 VDD15 (power), P18 VDD15 (power), P19 VDD15 (power), R16 VDD15 (power), R17 VDD15 (power), R18 VDD15 (power), R19 VDD15 (power), R32 VDD33 (power), T13 VDD15 (power), T14 VDD15 (power), T15 VDD15 (power), T20 VDD15 (power), T21 VDD15 (power), T22 VDD15 (power), U13 VDD15 (power), U14 VDD15 (power), U15 VDD15 (power), U20 VDD15 (power), U21 VDD15 (power), U22 VDD15 (power), U34 VDD33 (power), V13 VDD15 (power), V14 VDD15 (power), V15 VDD15 (power), V20 VDD15 (power), V21 VDD15 (power), V22 VDD15 (power), W13 VDD15 (power), W14 VDD15 (power), W15 VDD15 (power), W20 VDD15 (power), W21 VDD15 (power), W22 VDD15 (power), W34 VDD33 (power), Y16 VDD15 (power), Y17 VDD15 (power), Y18 VDD15 (power), Y19 VDD15 (power), Y32 VDD33 (power)
part H pins: A1 VSS (power), A2 VSS (power), A18 VSS (power), A33 VSS (power), A34 VSS (power), AA13 VSS (power), AA14 VSS (power), AA15 VSS (power), AA20 VSS (power), AA21 VSS (power), AA22 VSS (power), AB3 VSS (power), AB13 VSS (power), AB14 VSS (power), AB15 VSS (power), AB20 VSS (power), AB21 VSS (power), AB22 VSS (power), AB32 VSS (power), AD31 VSSA_STM (power), AL4 VSS (power), AL31 VSS (power), AM3 VSS (power), AM13 VSS (power), AM22 VSS (power), AM32 VSS (power), AN1 VSS (power), AN2 VSS (power), AN33 VSS (power), AN34 VSS (power), AP1 VSS (power), AP2 VSS (power), AP18 VSS (power), AP33 VSS (power), AP34 VSS (power), B1 VSS (power), B2 VSS (power), B33 VSS (power), B34 VSS (power), C3 VSS (power), C13 VSS (power), C22 VSS (power), C32 VSS (power), D4 VSS (power), D31 VSS (power), N3 VSS (power), N13 VSS (power), N14 VSS (power), N15 VSS (power), N20 VSS (power), N21 VSS (power), N22 VSS (power), N32 VSS (power), P13 VSS (power), P14 VSS (power), P15 VSS (power), P20 VSS (power), P21 VSS (power), P22 VSS (power), R13 VSS (power), R14 VSS (power), R15 VSS (power), R20 VSS (power), R21 VSS (power), R22 VSS (power), T16 VSS (power), T17 VSS (power), T18 VSS (power), T19 VSS (power), T34 VSS (power), U16 VSS (power), U17 VSS (power), U18 VSS (power), U19 VSS (power), V1 VSS (power), V16 VSS (power), V17 VSS (power), V18 VSS (power), V19 VSS (power), V34 VSS (power), W16 VSS (power), W17 VSS (power), W18 VSS (power), W19 VSS (power), Y13 VSS (power), Y14 VSS (power), Y15 VSS (power), Y20 VSS (power), Y21 VSS (power), Y22 VSS (power)
part I pins: A27 Reserved, A28 Reserved, A29 Reserved, A30 Reserved, AA31 Reserved, AA32 Reserved, AH32 Reserved, AH33 Reserved, AJ33 Reserved, AJ34 Reserved, AN28 Reserved, AP29 Reserved, B26 Reserved, B27 Reserved, B28 Reserved, C25 Reserved, C26 Reserved, C27 Reserved, C28 Reserved, C29 Reserved, D24 Reserved, D25 Reserved, D26 Reserved, D27 Reserved, D28 Reserved, E26 Reserved, E27 Reserved, E28 Reserved, E33 Reserved, E34 Reserved, F32 Reserved, F33 Reserved, F34 Reserved, G30 Reserved, G31 Reserved, G32 Reserved, G33 Reserved, G34 Reserved, H30 Reserved, H31 Reserved, H32 Reserved, H33 Reserved, H34 Reserved, J30 Reserved, J31 Reserved, J32 Reserved, J33 Reserved, J34 Reserved, K30 Reserved, K31 Reserved, K32 Reserved, K33 Reserved, L30 Reserved, L31 Reserved, L32 Reserved, M30 Reserved, M31 Reserved, N30 Reserved, P32 Reserved, R30 Reserved, R31 Reserved, T30 Reserved, W30 Reserved, Y31 Reserved
part A text: Bank 0
part B text: Bank 1
part C text: Bank 5
part D text: Bank 6
part E text: Bank 7

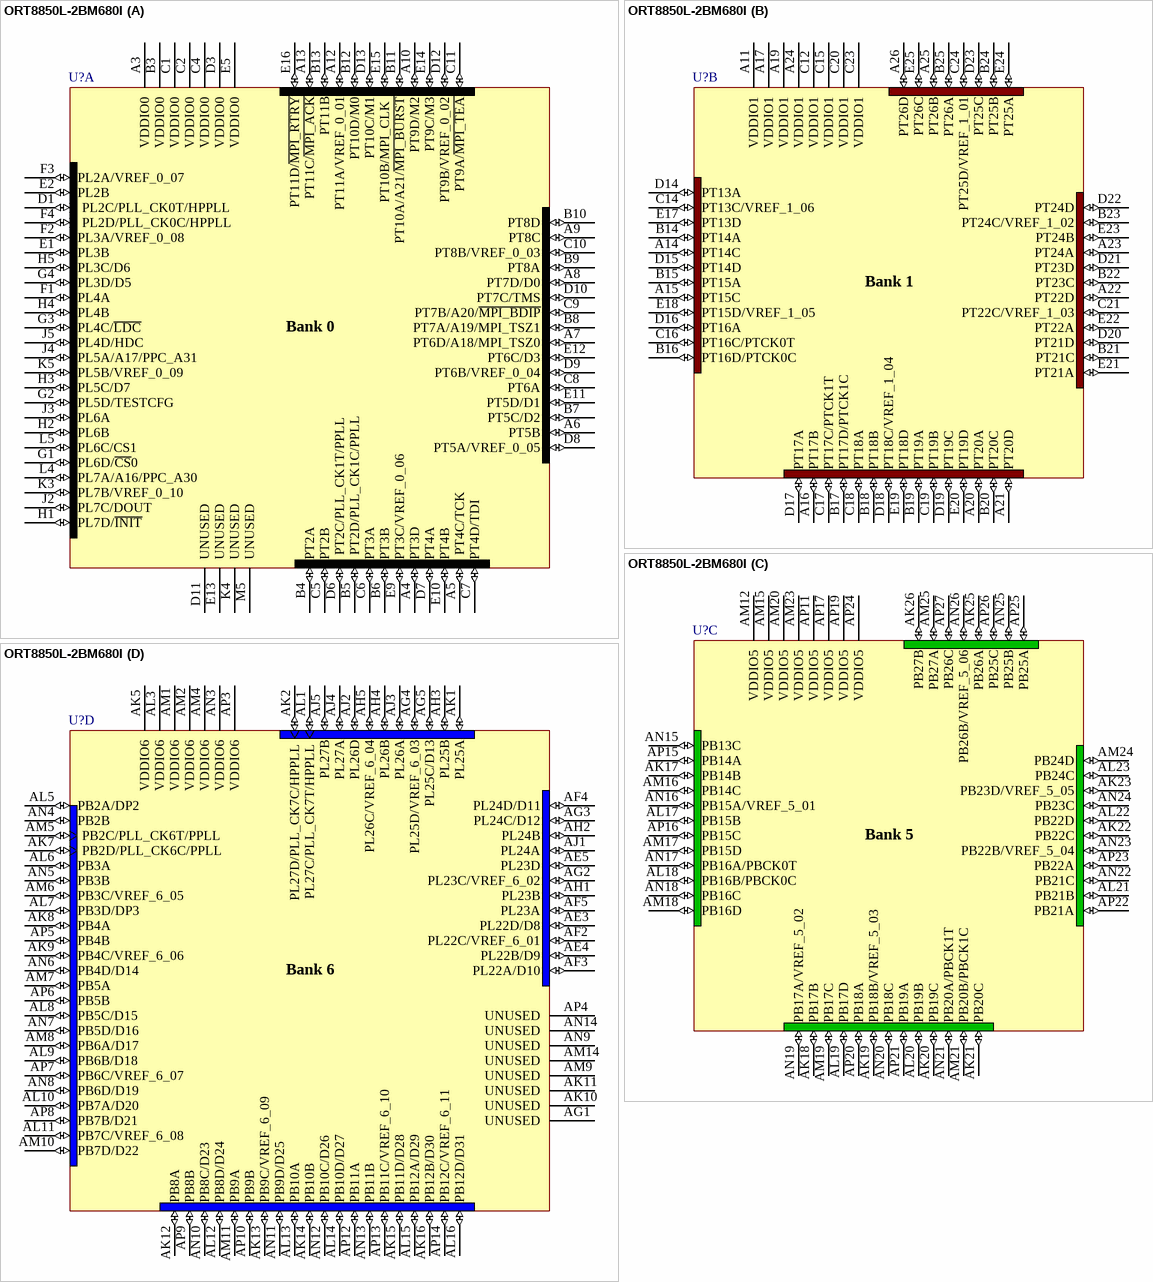
[diagram p49: symbol ORT8850L-2BM680I]

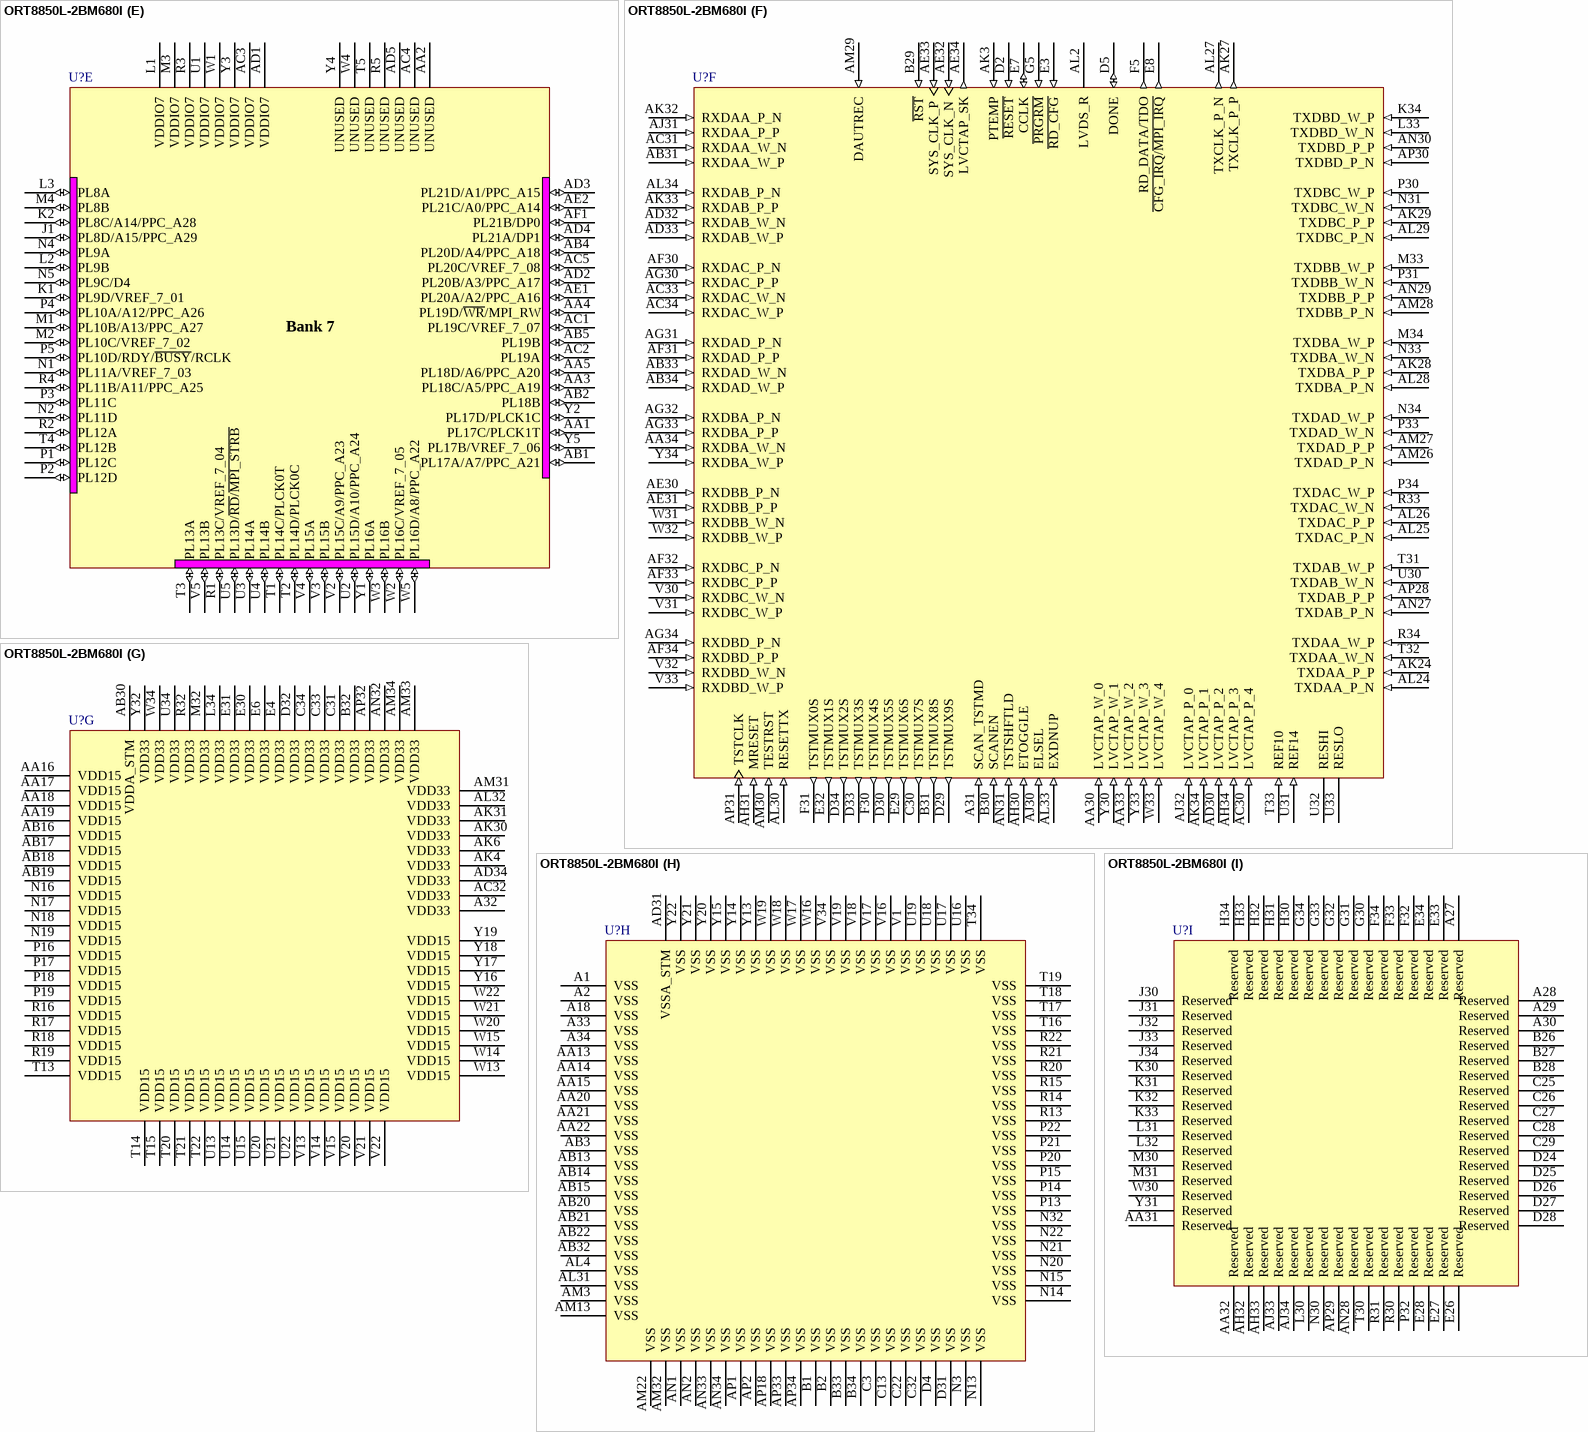
[diagram p50: symbol ORT8850L-2BM680I]